# Altium integrated library AD Operational Amplifier.IntLib: 1114 symbols (part 12 of 13)
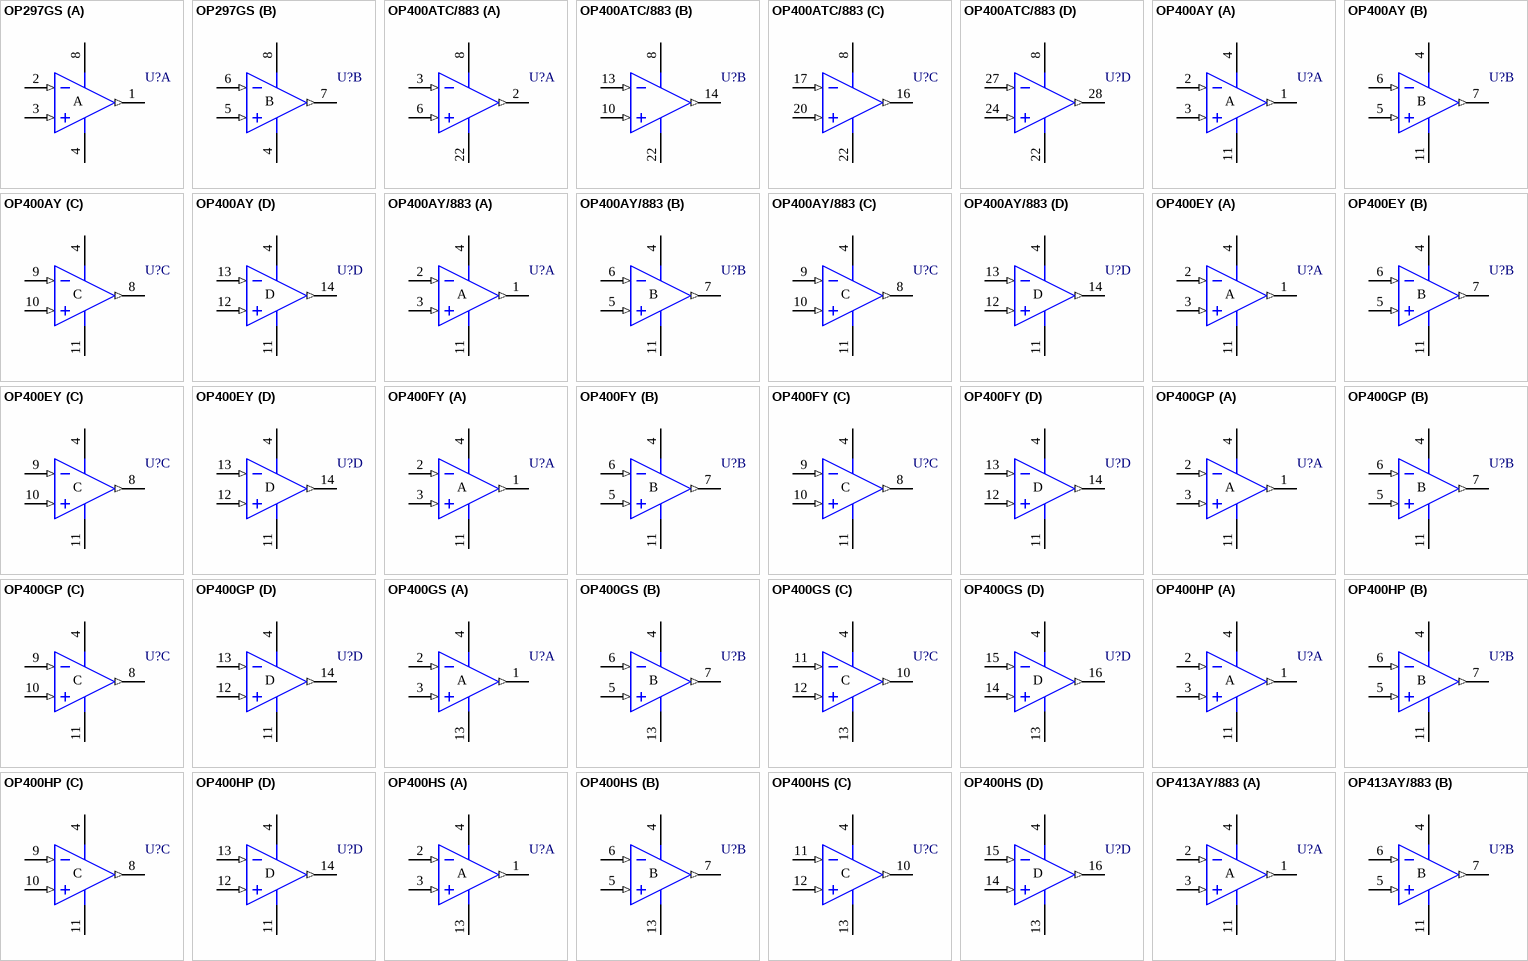
[diagram p57: symbols OP297GS to OP413AY/883]

## OP400GS
designator U?
Quad Low-Offset, Low-Power Operational Amplifier; Revision 1: 17-Jul-2002: Re-released for DXP Platform.; Revision 2: 21-May-2003: Pin 10 electrical type changed to 'Output'.; Package Information: Latest Revision: revA 1996; Note: Pins 8 and 9 are not connected and not drawn.; Code - JEDEC: MS-013-AA; Code - IPC: SO16W; Published: 8-Jun-2000; Datasheet: Designer's Reference Manual CD (1992); Package Reference: SOL-16; Publisher: Altium Limited
footprint SOL-16 (Small Outline; 16 Leads; Body Width 7.5 mm; Pitch 1.27 mm)
simulation model OP400G (SUBCKT)
pins on every part: 4 V+ (power), 13 V- (power)
part A pins: 1 OUT (out), 2 IN- (in), 3 IN+ (in)
part B pins: 5 IN+ (in), 6 IN- (in), 7 OUT (out)
part C pins: 10 OUT (out), 11 IN- (in), 12 IN+ (in)
part D pins: 14 IN+ (in), 15 IN- (in), 16 OUT (out)
part A text: A
part B text: B
part C text: C
part D text: D

## OP400HP
designator U?
Quad Low-Offset, Low-Power Operational Amplifier; Package Information: Latest Revision: 1999; Published: 8-Jun-2000; Revision: 17-Jul-2002: Re-released for DXP Platform.; Datasheet: Designer's Reference Manual CD (1992); Package Reference: N-14; Publisher: Altium Limited
footprint N-14 (DIP; 14 Leads; Row Spacing 7.62 mm; Pitch 2.54 mm)
simulation model OP400H (SUBCKT)
pins on every part: 4 V+ (power), 11 V- (power)
part A pins: 1 OUT (out), 2 IN- (in), 3 IN+ (in)
part B pins: 5 IN+ (in), 6 IN- (in), 7 OUT (out)
part C pins: 8 OUT (out), 9 IN- (in), 10 IN+ (in)
part D pins: 12 IN+ (in), 13 IN- (in), 14 OUT (out)
part A text: A
part B text: B
part C text: C
part D text: D

## OP400HS
designator U?
Quad Low-Offset, Low-Power Operational Amplifier; Revision 1: 17-Jul-2002: Re-released for DXP Platform.; Revision 2: 21-May-2003: Pin 10 electrical type changed to 'Output'.; Package Information: Latest Revision: revA 1996; Note: Pins 8 and 9 are not connected and not drawn.; Code - JEDEC: MS-013-AA; Code - IPC: SO16W; Published: 8-Jun-2000; Datasheet: Designer's Reference Manual CD (1992); Package Reference: SOL-16; Publisher: Altium Limited
footprint SOL-16 (Small Outline; 16 Leads; Body Width 7.5 mm; Pitch 1.27 mm)
simulation model OP400H (SUBCKT)
pins on every part: 4 V+ (power), 13 V- (power)
part A pins: 1 OUT (out), 2 IN- (in), 3 IN+ (in)
part B pins: 5 IN+ (in), 6 IN- (in), 7 OUT (out)
part C pins: 10 OUT (out), 11 IN- (in), 12 IN+ (in)
part D pins: 14 IN+ (in), 15 IN- (in), 16 OUT (out)
part A text: A
part B text: B
part C text: C
part D text: D

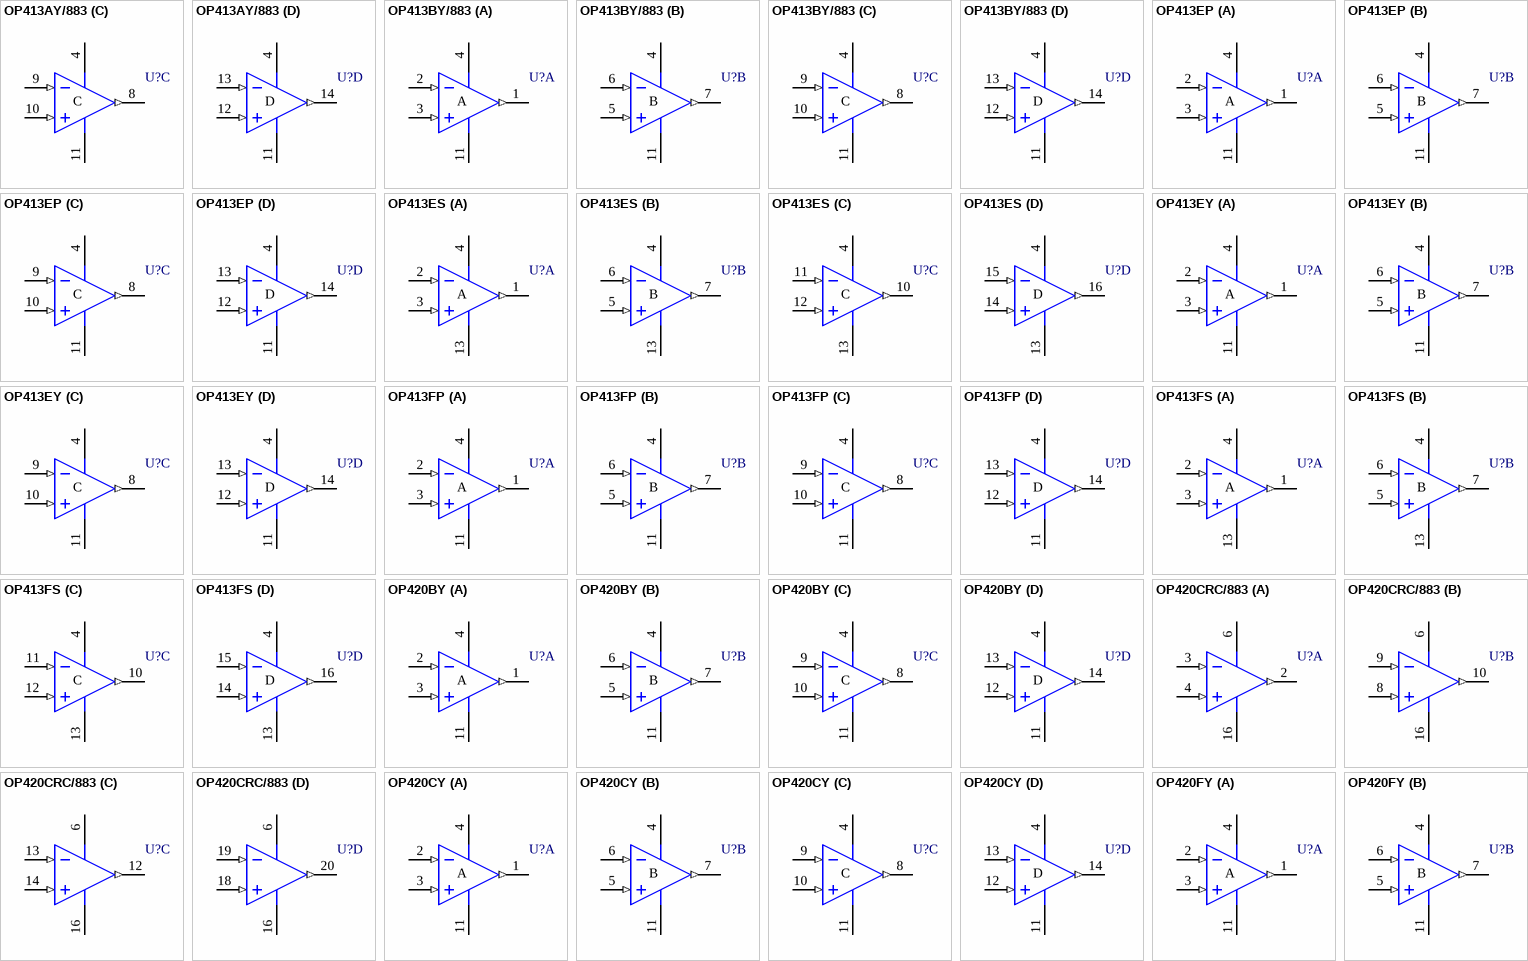
[diagram p36: symbols OP413AY/883 to OP420FY]

## OP413AY/883
designator U?
Low-Noise, Low Drift Single-Supply Operational Amplifier; Package Information: Latest Revision: revB; Published: 8-Jun-2000; Revision: 17-Jul-2002: Re-released for DXP Platform.; Datasheet: Latest Revision: REV. A 1994; Package Reference: Q-14; Publisher: Altium Limited
footprint Q-14 (DIP; 14 Leads; Row Spacing 7.62 mm; Pitch 2.54 mm)
simulation model OP413 (SUBCKT)
pins on every part: 4 V+ (power), 11 V- (power)
part A pins: 1 OUT (out), 2 IN- (in), 3 IN+ (in)
part B pins: 5 IN+ (in), 6 IN- (in), 7 OUT (out)
part C pins: 8 OUT (out), 9 IN- (in), 10 IN+ (in)
part D pins: 12 IN+ (in), 13 IN- (in), 14 OUT (out)
part A text: A
part B text: B
part C text: C
part D text: D

## OP413BY/883
designator U?
Low-Noise, Low Drift Single-Supply Operational Amplifier; Package Information: Latest Revision: revB; Published: 8-Jun-2000; Revision: 17-Jul-2002: Re-released for DXP Platform.; Datasheet: Latest Revision: REV. A 1994; Package Reference: Q-14; Publisher: Altium Limited
footprint Q-14 (DIP; 14 Leads; Row Spacing 7.62 mm; Pitch 2.54 mm)
simulation model OP413 (SUBCKT)
pins on every part: 4 V+ (power), 11 V- (power)
part A pins: 1 OUT (out), 2 IN- (in), 3 IN+ (in)
part B pins: 5 IN+ (in), 6 IN- (in), 7 OUT (out)
part C pins: 8 OUT (out), 9 IN- (in), 10 IN+ (in)
part D pins: 12 IN+ (in), 13 IN- (in), 14 OUT (out)
part A text: A
part B text: B
part C text: C
part D text: D

## OP413EP
designator U?
Low-Noise, Low Drift Single-Supply Operational Amplifier; Package Information: Latest Revision: 1999; Published: 8-Jun-2000; Revision: 17-Jul-2002: Re-released for DXP Platform.; Datasheet: Latest Revision: REV. C 1998; Package Reference: N-14; Publisher: Altium Limited
footprint N-14 (DIP; 14 Leads; Row Spacing 7.62 mm; Pitch 2.54 mm)
pins on every part: 4 V+ (power), 11 V- (power)
part A pins: 1 OUT (out), 2 IN- (in), 3 IN+ (in)
part B pins: 5 IN+ (in), 6 IN- (in), 7 OUT (out)
part C pins: 8 OUT (out), 9 IN- (in), 10 IN+ (in)
part D pins: 12 IN+ (in), 13 IN- (in), 14 OUT (out)
part A text: A
part B text: B
part C text: C
part D text: D

## OP413ES
designator U?
Low-Noise, Low Drift Single-Supply Operational Amplifier; Revision 1: 17-Jul-2002: Re-released for DXP Platform.; Revision 2: 21-May-2003: Pin 10 electrical type changed to 'Output'.; Package Information: Latest Revision: revA 1996; Note: Pins 8 and 9 are not connected and not drawn.; Code - JEDEC: MS-013-AA; Code - IPC: SO16W; Published: 8-Jun-2000; Datasheet: Latest Revision: REV. C 1998; Package Reference: R-16; Publisher: Altium Limited
footprint R-16 (Small Outline; 16 Leads; Body Width 7.5 mm; Pitch 1.27 mm)
pins on every part: 4 V+ (power), 13 V- (power)
part A pins: 1 OUT (out), 2 IN- (in), 3 IN+ (in)
part B pins: 5 IN+ (in), 6 IN- (in), 7 OUT (out)
part C pins: 10 OUT (out), 11 IN- (in), 12 IN+ (in)
part D pins: 14 IN+ (in), 15 IN- (in), 16 OUT (out)
part A text: A
part B text: B
part C text: C
part D text: D

## OP413EY
designator U?
Low-Noise, Low Drift Single-Supply Operational Amplifier; Package Information: Latest Revision: revB; Published: 8-Jun-2000; Revision: 17-Jul-2002: Re-released for DXP Platform.; Datasheet: Latest Revision: REV. A 1994; Package Reference: Q-14; Publisher: Altium Limited
footprint Q-14 (DIP; 14 Leads; Row Spacing 7.62 mm; Pitch 2.54 mm)
pins on every part: 4 V+ (power), 11 V- (power)
part A pins: 1 OUT (out), 2 IN- (in), 3 IN+ (in)
part B pins: 5 IN+ (in), 6 IN- (in), 7 OUT (out)
part C pins: 8 OUT (out), 9 IN- (in), 10 IN+ (in)
part D pins: 12 IN+ (in), 13 IN- (in), 14 OUT (out)
part A text: A
part B text: B
part C text: C
part D text: D

## OP413FP
designator U?
Low-Noise, Low Drift Single-Supply Operational Amplifier; Package Information: Latest Revision: 1999; Published: 8-Jun-2000; Revision: 17-Jul-2002: Re-released for DXP Platform.; Datasheet: Latest Revision: REV. C 1998; Package Reference: N-14; Publisher: Altium Limited
footprint N-14 (DIP; 14 Leads; Row Spacing 7.62 mm; Pitch 2.54 mm)
pins on every part: 4 V+ (power), 11 V- (power)
part A pins: 1 OUT (out), 2 IN- (in), 3 IN+ (in)
part B pins: 5 IN+ (in), 6 IN- (in), 7 OUT (out)
part C pins: 8 OUT (out), 9 IN- (in), 10 IN+ (in)
part D pins: 12 IN+ (in), 13 IN- (in), 14 OUT (out)
part A text: A
part B text: B
part C text: C
part D text: D

## OP413FS
designator U?
Low-Noise, Low Drift Single-Supply Operational Amplifier; Revision 1: 17-Jul-2002: Re-released for DXP Platform.; Revision 2: 21-May-2003: Pin 10 electrical type changed to 'Output'.; Package Information: Latest Revision: revA 1996; Note: Pins 8 and 9 are not connected and not drawn.; Code - JEDEC: MS-013-AA; Code - IPC: SO16W; Published: 8-Jun-2000; Datasheet: Latest Revision: REV. C 1998; Package Reference: R-16; Publisher: Altium Limited
footprint R-16 (Small Outline; 16 Leads; Body Width 7.5 mm; Pitch 1.27 mm)
pins on every part: 4 V+ (power), 13 V- (power)
part A pins: 1 OUT (out), 2 IN- (in), 3 IN+ (in)
part B pins: 5 IN+ (in), 6 IN- (in), 7 OUT (out)
part C pins: 10 OUT (out), 11 IN- (in), 12 IN+ (in)
part D pins: 14 IN+ (in), 15 IN- (in), 16 OUT (out)
part A text: A
part B text: B
part C text: C
part D text: D

## OP420BY
designator U?
Quad Micropower Operational Amplifier; Package Information: Latest Revision: revB; Published: 8-Jun-2000; Revision: 17-Jul-2002: Re-released for DXP Platform.; Datasheet: Latest Revision: 1992; Package Reference: Q-14; Publisher: Altium Limited
footprint Q-14 (DIP; 14 Leads; Row Spacing 7.62 mm; Pitch 2.54 mm)
simulation model OP420B (SUBCKT)
pins on every part: 4 V+ (power), 11 V- (power)
part A pins: 1 OUT (out), 2 IN- (in), 3 IN+ (in)
part B pins: 5 IN+ (in), 6 IN- (in), 7 OUT (out)
part C pins: 8 OUT (out), 9 IN- (in), 10 IN+ (in)
part D pins: 12 IN+ (in), 13 IN- (in), 14 OUT (out)
part A text: A
part B text: B
part C text: C
part D text: D

## OP420CRC/883
designator U?
Quad Micropower Operational Amplifier; Note: Pins 1, 5, 7, 11, 15 and 17 are not connected (NC) and are not drawn.; Published: 8-Jun-2000; Revision: 17-Jul-2002: Re-released for DXP Platform.; Datasheet: Latest Revision: 1992; Package Reference: E-20A; Publisher: Altium Limited
footprint E-20A (Leadless Chip Carrier; 20 Terminals; Body 8.9 x 8.9 mm)
simulation model OP420C (SUBCKT)
pins on every part: 6 V+ (power), 16 V- (power)
part A pins: 2 OUT (out), 3 IN- (in), 4 IN+ (in)
part B pins: 8 IN+ (in), 9 IN- (in), 10 OUT (out)
part C pins: 12 OUT (out), 13 IN- (in), 14 IN+ (in)
part D pins: 18 IN+ (in), 19 IN- (in), 20 OUT (out)

## OP420CY
designator U?
Quad Micropower Operational Amplifier; Package Information: Latest Revision: revB; Published: 8-Jun-2000; Revision: 17-Jul-2002: Re-released for DXP Platform.; Datasheet: Latest Revision: 1992; Package Reference: Q-14; Publisher: Altium Limited
footprint Q-14 (DIP; 14 Leads; Row Spacing 7.62 mm; Pitch 2.54 mm)
simulation model OP420C (SUBCKT)
pins on every part: 4 V+ (power), 11 V- (power)
part A pins: 1 OUT (out), 2 IN- (in), 3 IN+ (in)
part B pins: 5 IN+ (in), 6 IN- (in), 7 OUT (out)
part C pins: 8 OUT (out), 9 IN- (in), 10 IN+ (in)
part D pins: 12 IN+ (in), 13 IN- (in), 14 OUT (out)
part A text: A
part B text: B
part C text: C
part D text: D

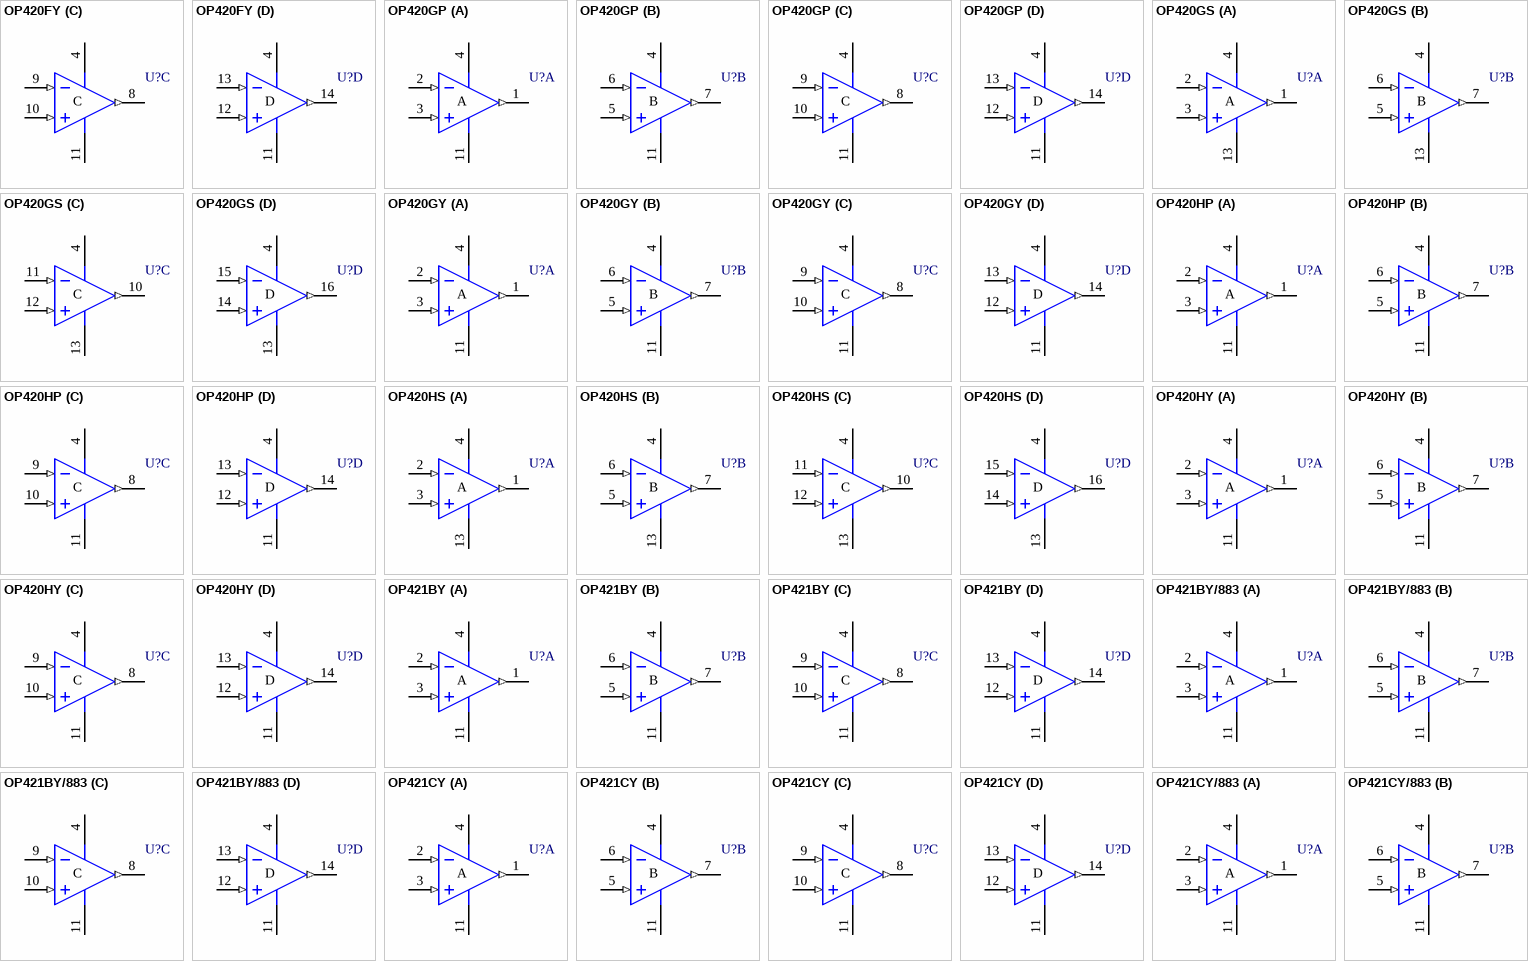
[diagram p37: symbols OP420FY to OP421CY/883]

## OP420FY
designator U?
Quad Micropower Operational Amplifier; Package Information: Latest Revision: revB; Published: 8-Jun-2000; Revision: 17-Jul-2002: Re-released for DXP Platform.; Datasheet: Latest Revision: 1992; Package Reference: Q-14; Publisher: Altium Limited
footprint Q-14 (DIP; 14 Leads; Row Spacing 7.62 mm; Pitch 2.54 mm)
simulation model OP420F (SUBCKT)
pins on every part: 4 V+ (power), 11 V- (power)
part A pins: 1 OUT (out), 2 IN- (in), 3 IN+ (in)
part B pins: 5 IN+ (in), 6 IN- (in), 7 OUT (out)
part C pins: 8 OUT (out), 9 IN- (in), 10 IN+ (in)
part D pins: 12 IN+ (in), 13 IN- (in), 14 OUT (out)
part A text: A
part B text: B
part C text: C
part D text: D

## OP420GP
designator U?
Quad Micropower Operational Amplifier; Package Information: Latest Revision: 1999; Published: 8-Jun-2000; Revision: 17-Jul-2002: Re-released for DXP Platform.; Datasheet: Latest Revision: 1992; Package Reference: N-14; Publisher: Altium Limited
footprint N-14 (DIP; 14 Leads; Row Spacing 7.62 mm; Pitch 2.54 mm)
simulation model OP420G (SUBCKT)
pins on every part: 4 V+ (power), 11 V- (power)
part A pins: 1 OUT (out), 2 IN- (in), 3 IN+ (in)
part B pins: 5 IN+ (in), 6 IN- (in), 7 OUT (out)
part C pins: 8 OUT (out), 9 IN- (in), 10 IN+ (in)
part D pins: 12 IN+ (in), 13 IN- (in), 14 OUT (out)
part A text: A
part B text: B
part C text: C
part D text: D

## OP420GS
designator U?
Quad Micropower Operational Amplifier; Revision 1: 17-Jul-2002: Re-released for DXP Platform.; Revision 2: 21-May-2003: Pin 10 electrical type changed to 'Output'.; Package Information: Latest Revision: revA 1996; Note: Pins 8 and 9 are not connected and not drawn.; Code - JEDEC: MS-013-AA; Code - IPC: SO16W; Published: 8-Jun-2000; Datasheet: Latest Revision: 1992; Package Reference: SOL-16; Publisher: Altium Limited
footprint SOL-16 (Small Outline; 16 Leads; Body Width 7.5 mm; Pitch 1.27 mm)
simulation model OP420G (SUBCKT)
pins on every part: 4 V+ (power), 13 V- (power)
part A pins: 1 OUT (out), 2 IN- (in), 3 IN+ (in)
part B pins: 5 IN+ (in), 6 IN- (in), 7 OUT (out)
part C pins: 10 OUT (out), 11 IN- (in), 12 IN+ (in)
part D pins: 14 IN+ (in), 15 IN- (in), 16 OUT (out)
part A text: A
part B text: B
part C text: C
part D text: D

## OP420GY
designator U?
Quad Micropower Operational Amplifier; Package Information: Latest Revision: revB; Published: 8-Jun-2000; Revision: 17-Jul-2002: Re-released for DXP Platform.; Datasheet: Latest Revision: 1992; Package Reference: Q-14; Publisher: Altium Limited
footprint Q-14 (DIP; 14 Leads; Row Spacing 7.62 mm; Pitch 2.54 mm)
simulation model OP420G (SUBCKT)
pins on every part: 4 V+ (power), 11 V- (power)
part A pins: 1 OUT (out), 2 IN- (in), 3 IN+ (in)
part B pins: 5 IN+ (in), 6 IN- (in), 7 OUT (out)
part C pins: 8 OUT (out), 9 IN- (in), 10 IN+ (in)
part D pins: 12 IN+ (in), 13 IN- (in), 14 OUT (out)
part A text: A
part B text: B
part C text: C
part D text: D

## OP420HP
designator U?
Quad Micropower Operational Amplifier; Package Information: Latest Revision: 1999; Published: 8-Jun-2000; Revision: 17-Jul-2002: Re-released for DXP Platform.; Datasheet: Latest Revision: 1992; Package Reference: N-14; Publisher: Altium Limited
footprint N-14 (DIP; 14 Leads; Row Spacing 7.62 mm; Pitch 2.54 mm)
simulation model OP420H (SUBCKT)
pins on every part: 4 V+ (power), 11 V- (power)
part A pins: 1 OUT (out), 2 IN- (in), 3 IN+ (in)
part B pins: 5 IN+ (in), 6 IN- (in), 7 OUT (out)
part C pins: 8 OUT (out), 9 IN- (in), 10 IN+ (in)
part D pins: 12 IN+ (in), 13 IN- (in), 14 OUT (out)
part A text: A
part B text: B
part C text: C
part D text: D

## OP420HS
designator U?
Quad Micropower Operational Amplifier; Revision 1: 17-Jul-2002: Re-released for DXP Platform.; Revision 2: 21-May-2003: Pin 10 electrical type changed to 'Output'.; Package Information: Latest Revision: revA 1996; Note: Pins 8 and 9 are not connected and not drawn.; Code - JEDEC: MS-013-AA; Code - IPC: SO16W; Published: 8-Jun-2000; Datasheet: Latest Revision: 1992; Package Reference: SOL-16; Publisher: Altium Limited
footprint SOL-16 (Small Outline; 16 Leads; Body Width 7.5 mm; Pitch 1.27 mm)
simulation model OP420H (SUBCKT)
pins on every part: 4 V+ (power), 13 V- (power)
part A pins: 1 OUT (out), 2 IN- (in), 3 IN+ (in)
part B pins: 5 IN+ (in), 6 IN- (in), 7 OUT (out)
part C pins: 10 OUT (out), 11 IN- (in), 12 IN+ (in)
part D pins: 14 IN+ (in), 15 IN- (in), 16 OUT (out)
part A text: A
part B text: B
part C text: C
part D text: D

## OP420HY
designator U?
Quad Micropower Operational Amplifier; Package Information: Latest Revision: revB; Published: 8-Jun-2000; Revision: 17-Jul-2002: Re-released for DXP Platform.; Datasheet: Latest Revision: 1992; Package Reference: Q-14; Publisher: Altium Limited
footprint Q-14 (DIP; 14 Leads; Row Spacing 7.62 mm; Pitch 2.54 mm)
simulation model OP420H (SUBCKT)
pins on every part: 4 V+ (power), 11 V- (power)
part A pins: 1 OUT (out), 2 IN- (in), 3 IN+ (in)
part B pins: 5 IN+ (in), 6 IN- (in), 7 OUT (out)
part C pins: 8 OUT (out), 9 IN- (in), 10 IN+ (in)
part D pins: 12 IN+ (in), 13 IN- (in), 14 OUT (out)
part A text: A
part B text: B
part C text: C
part D text: D

## OP421BY
designator U?
Quad Low-Power Operational Amplifier, Single or Dual Supply; Package Information: Latest Revision: revB; Published: 8-Jun-2000; Revision: 17-Jul-2002: Re-released for DXP Platform.; Datasheet: Latest Revision: 1992; Package Reference: Q-14; Publisher: Altium Limited
footprint Q-14 (DIP; 14 Leads; Row Spacing 7.62 mm; Pitch 2.54 mm)
simulation model OP421B (SUBCKT)
pins on every part: 4 V+ (power), 11 V- (power)
part A pins: 1 OUT (out), 2 IN- (in), 3 IN+ (in)
part B pins: 5 IN+ (in), 6 IN- (in), 7 OUT (out)
part C pins: 8 OUT (out), 9 IN- (in), 10 IN+ (in)
part D pins: 12 IN+ (in), 13 IN- (in), 14 OUT (out)
part A text: A
part B text: B
part C text: C
part D text: D

## OP421BY/883
designator U?
Quad Low-Power Operational Amplifier, Single or Dual Supply; Package Information: Latest Revision: revB; Published: 8-Jun-2000; Revision: 17-Jul-2002: Re-released for DXP Platform.; Datasheet: Latest Revision: 1992; Package Reference: Q-14; Publisher: Altium Limited
footprint Q-14 (DIP; 14 Leads; Row Spacing 7.62 mm; Pitch 2.54 mm)
simulation model OP421B (SUBCKT)
pins on every part: 4 V+ (power), 11 V- (power)
part A pins: 1 OUT (out), 2 IN- (in), 3 IN+ (in)
part B pins: 5 IN+ (in), 6 IN- (in), 7 OUT (out)
part C pins: 8 OUT (out), 9 IN- (in), 10 IN+ (in)
part D pins: 12 IN+ (in), 13 IN- (in), 14 OUT (out)
part A text: A
part B text: B
part C text: C
part D text: D

## OP421CY
designator U?
Quad Low-Power Operational Amplifier, Single or Dual Supply; Package Information: Latest Revision: revB; Published: 8-Jun-2000; Revision: 17-Jul-2002: Re-released for DXP Platform.; Datasheet: Latest Revision: 1992; Package Reference: Q-14; Publisher: Altium Limited
footprint Q-14 (DIP; 14 Leads; Row Spacing 7.62 mm; Pitch 2.54 mm)
simulation model OP421C (SUBCKT)
pins on every part: 4 V+ (power), 11 V- (power)
part A pins: 1 OUT (out), 2 IN- (in), 3 IN+ (in)
part B pins: 5 IN+ (in), 6 IN- (in), 7 OUT (out)
part C pins: 8 OUT (out), 9 IN- (in), 10 IN+ (in)
part D pins: 12 IN+ (in), 13 IN- (in), 14 OUT (out)
part A text: A
part B text: B
part C text: C
part D text: D

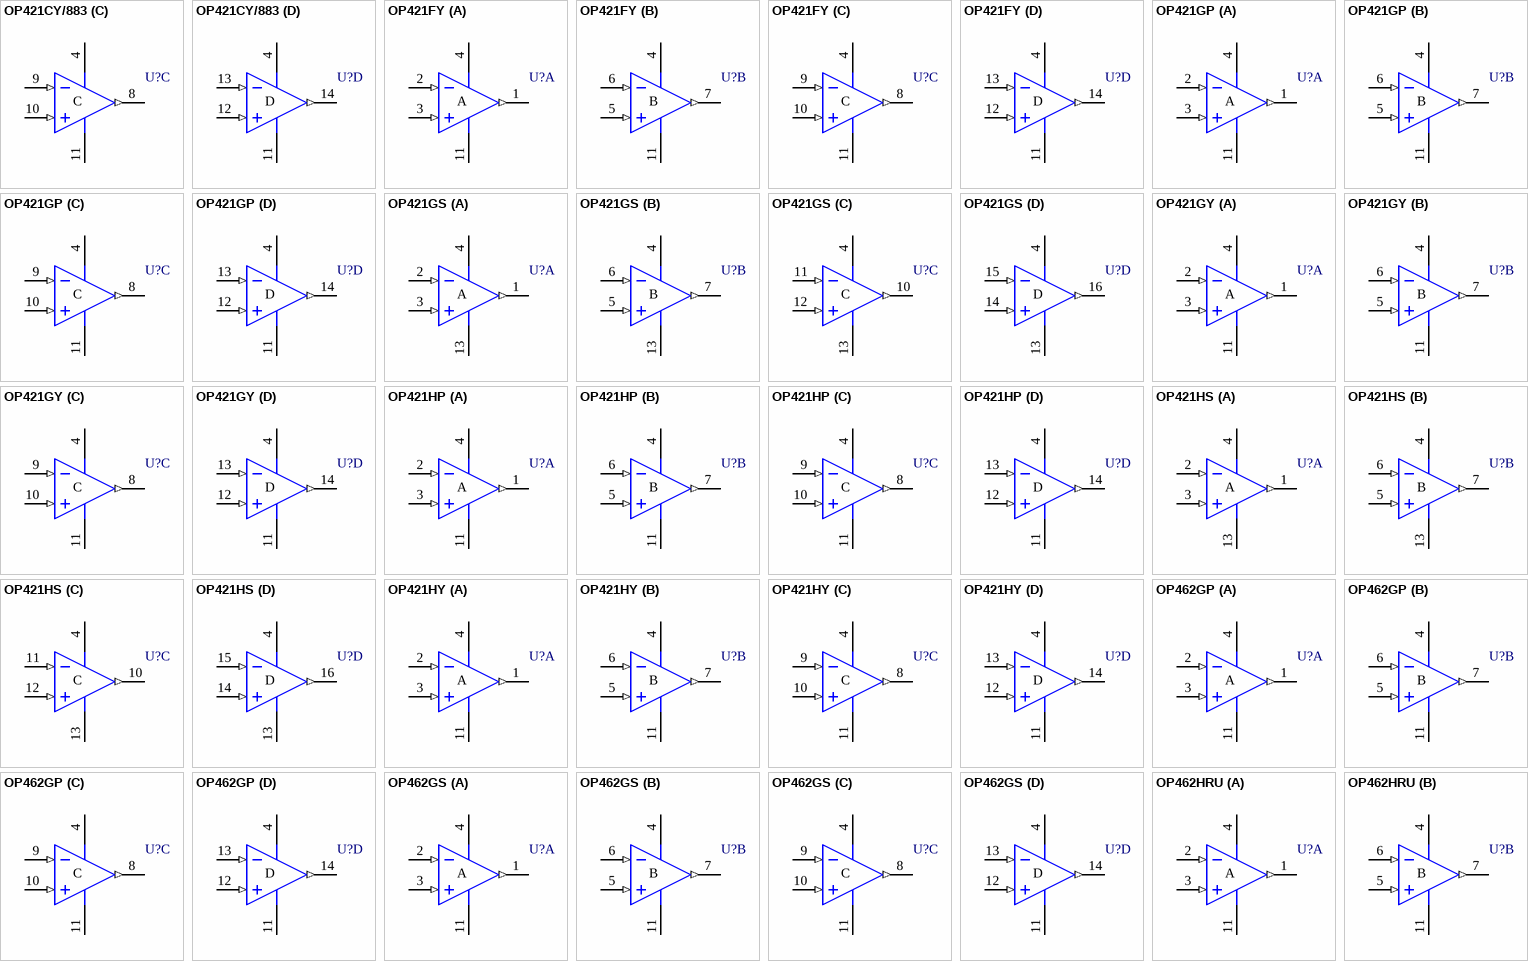
[diagram p38: symbols OP421CY/883 to OP462HRU]

## OP421CY/883
designator U?
Quad Low-Power Operational Amplifier, Single or Dual Supply; Package Information: Latest Revision: revB; Published: 8-Jun-2000; Revision: 17-Jul-2002: Re-released for DXP Platform.; Datasheet: Latest Revision: 1992; Package Reference: Q-14; Publisher: Altium Limited
footprint Q-14 (DIP; 14 Leads; Row Spacing 7.62 mm; Pitch 2.54 mm)
simulation model OP421C (SUBCKT)
pins on every part: 4 V+ (power), 11 V- (power)
part A pins: 1 OUT (out), 2 IN- (in), 3 IN+ (in)
part B pins: 5 IN+ (in), 6 IN- (in), 7 OUT (out)
part C pins: 8 OUT (out), 9 IN- (in), 10 IN+ (in)
part D pins: 12 IN+ (in), 13 IN- (in), 14 OUT (out)
part A text: A
part B text: B
part C text: C
part D text: D

## OP421FY
designator U?
Quad Low-Power Operational Amplifier, Single or Dual Supply; Package Information: Latest Revision: revB; Published: 8-Jun-2000; Revision: 17-Jul-2002: Re-released for DXP Platform.; Datasheet: Latest Revision: 1992; Package Reference: Q-14; Publisher: Altium Limited
footprint Q-14 (DIP; 14 Leads; Row Spacing 7.62 mm; Pitch 2.54 mm)
simulation model OP421F (SUBCKT)
pins on every part: 4 V+ (power), 11 V- (power)
part A pins: 1 OUT (out), 2 IN- (in), 3 IN+ (in)
part B pins: 5 IN+ (in), 6 IN- (in), 7 OUT (out)
part C pins: 8 OUT (out), 9 IN- (in), 10 IN+ (in)
part D pins: 12 IN+ (in), 13 IN- (in), 14 OUT (out)
part A text: A
part B text: B
part C text: C
part D text: D

## OP421GP
designator U?
Quad Low-Power Operational Amplifier, Single or Dual Supply; Package Information: Latest Revision: 1999; Published: 8-Jun-2000; Revision: 17-Jul-2002: Re-released for DXP Platform.; Datasheet: Latest Revision: 1992; Package Reference: N-14; Publisher: Altium Limited
footprint N-14 (DIP; 14 Leads; Row Spacing 7.62 mm; Pitch 2.54 mm)
simulation model OP421G (SUBCKT)
pins on every part: 4 V+ (power), 11 V- (power)
part A pins: 1 OUT (out), 2 IN- (in), 3 IN+ (in)
part B pins: 5 IN+ (in), 6 IN- (in), 7 OUT (out)
part C pins: 8 OUT (out), 9 IN- (in), 10 IN+ (in)
part D pins: 12 IN+ (in), 13 IN- (in), 14 OUT (out)
part A text: A
part B text: B
part C text: C
part D text: D

## OP421GS
designator U?
Quad Low-Power Operational Amplifier, Single or Dual Supply; Revision 1: 17-Jul-2002: Re-released for DXP Platform.; Revision 2: 21-May-2003: Pin 10 electrical type changed to 'Output'.; Package Information: Latest Revision: revA 1996; Note: Pins 8 and 9 are not connected and not drawn.; Code - JEDEC: MS-013-AA; Code - IPC: SO16W; Published: 8-Jun-2000; Datasheet: Latest Revision: 1992; Package Reference: SOL-16; Publisher: Altium Limited
footprint SOL-16 (Small Outline; 16 Leads; Body Width 7.5 mm; Pitch 1.27 mm)
simulation model OP421G (SUBCKT)
pins on every part: 4 V+ (power), 13 V- (power)
part A pins: 1 OUT (out), 2 IN- (in), 3 IN+ (in)
part B pins: 5 IN+ (in), 6 IN- (in), 7 OUT (out)
part C pins: 10 OUT (out), 11 IN- (in), 12 IN+ (in)
part D pins: 14 IN+ (in), 15 IN- (in), 16 OUT (out)
part A text: A
part B text: B
part C text: C
part D text: D

## OP421GY
designator U?
Quad Low-Power Operational Amplifier, Single or Dual Supply; Package Information: Latest Revision: revB; Published: 8-Jun-2000; Revision: 17-Jul-2002: Re-released for DXP Platform.; Datasheet: Latest Revision: 1992; Package Reference: Q-14; Publisher: Altium Limited
footprint Q-14 (DIP; 14 Leads; Row Spacing 7.62 mm; Pitch 2.54 mm)
simulation model OP421G (SUBCKT)
pins on every part: 4 V+ (power), 11 V- (power)
part A pins: 1 OUT (out), 2 IN- (in), 3 IN+ (in)
part B pins: 5 IN+ (in), 6 IN- (in), 7 OUT (out)
part C pins: 8 OUT (out), 9 IN- (in), 10 IN+ (in)
part D pins: 12 IN+ (in), 13 IN- (in), 14 OUT (out)
part A text: A
part B text: B
part C text: C
part D text: D

## OP421HP
designator U?
Quad Low-Power Operational Amplifier, Single or Dual Supply; Package Information: Latest Revision: 1999; Published: 8-Jun-2000; Revision: 17-Jul-2002: Re-released for DXP Platform.; Datasheet: Latest Revision: 1992; Package Reference: N-14; Publisher: Altium Limited
footprint N-14 (DIP; 14 Leads; Row Spacing 7.62 mm; Pitch 2.54 mm)
simulation model OP421H (SUBCKT)
pins on every part: 4 V+ (power), 11 V- (power)
part A pins: 1 OUT (out), 2 IN- (in), 3 IN+ (in)
part B pins: 5 IN+ (in), 6 IN- (in), 7 OUT (out)
part C pins: 8 OUT (out), 9 IN- (in), 10 IN+ (in)
part D pins: 12 IN+ (in), 13 IN- (in), 14 OUT (out)
part A text: A
part B text: B
part C text: C
part D text: D

## OP421HS
designator U?
Quad Low-Power Operational Amplifier, Single or Dual Supply; Revision 1: 17-Jul-2002: Re-released for DXP Platform.; Revision 2: 21-May-2003: Pin 10 electrical type changed to 'Output'.; Package Information: Latest Revision: revA 1996; Note: Pins 8 and 9 are not connected and not drawn.; Code - JEDEC: MS-013-AA; Code - IPC: SO16W; Published: 8-Jun-2000; Datasheet: Latest Revision: 1992; Package Reference: SOL-16; Publisher: Altium Limited
footprint SOL-16 (Small Outline; 16 Leads; Body Width 7.5 mm; Pitch 1.27 mm)
simulation model OP421H (SUBCKT)
pins on every part: 4 V+ (power), 13 V- (power)
part A pins: 1 OUT (out), 2 IN- (in), 3 IN+ (in)
part B pins: 5 IN+ (in), 6 IN- (in), 7 OUT (out)
part C pins: 10 OUT (out), 11 IN- (in), 12 IN+ (in)
part D pins: 14 IN+ (in), 15 IN- (in), 16 OUT (out)
part A text: A
part B text: B
part C text: C
part D text: D

## OP421HY
designator U?
Quad Low-Power Operational Amplifier, Single or Dual Supply; Package Information: Latest Revision: revB; Published: 8-Jun-2000; Revision: 17-Jul-2002: Re-released for DXP Platform.; Datasheet: Latest Revision: 1992; Package Reference: Q-14; Publisher: Altium Limited
footprint Q-14 (DIP; 14 Leads; Row Spacing 7.62 mm; Pitch 2.54 mm)
simulation model OP421H (SUBCKT)
pins on every part: 4 V+ (power), 11 V- (power)
part A pins: 1 OUT (out), 2 IN- (in), 3 IN+ (in)
part B pins: 5 IN+ (in), 6 IN- (in), 7 OUT (out)
part C pins: 8 OUT (out), 9 IN- (in), 10 IN+ (in)
part D pins: 12 IN+ (in), 13 IN- (in), 14 OUT (out)
part A text: A
part B text: B
part C text: C
part D text: D

## OP462GP
designator U?
15MHz Rail-to-Rail Operational Amplifier; Package Information: Latest Revision: 1999; Published: 8-Jun-2000; Revision: 17-Jul-2002: Re-released for DXP Platform.; Datasheet: Designer's Reference Manual CD (REV. B 1997); Package Reference: N-14; Publisher: Altium Limited
footprint N-14 (DIP; 14 Leads; Row Spacing 7.62 mm; Pitch 2.54 mm)
simulation model OP462 (SUBCKT)
pins on every part: 4 V+ (power), 11 V- (power)
part A pins: 1 OUT (out), 2 IN- (in), 3 IN+ (in)
part B pins: 5 IN+ (in), 6 IN- (in), 7 OUT (out)
part C pins: 8 OUT (out), 9 IN- (in), 10 IN+ (in)
part D pins: 12 IN+ (in), 13 IN- (in), 14 OUT (out)
part A text: A
part B text: B
part C text: C
part D text: D

## OP462GS
designator U?
15MHz Rail-to-Rail Operational Amplifier; Package Information: Latest Revision: revA; Code - JEDEC: MS-012-AB; Code - IPC: SO14; Published: 8-Jun-2000; Revision: 17-Jul-2002: Re-released for DXP Platform.; Datasheet: Designer's Reference Manual CD (REV. B 1997); Package Reference: SO-14; Publisher: Altium Limited
footprint SO-14 (Small Outline; 14 Leads; Body Width 3.9 mm; Pitch 1.27 mm)
simulation model OP462 (SUBCKT)
pins on every part: 4 V+ (power), 11 V- (power)
part A pins: 1 OUT (out), 2 IN- (in), 3 IN+ (in)
part B pins: 5 IN+ (in), 6 IN- (in), 7 OUT (out)
part C pins: 8 OUT (out), 9 IN- (in), 10 IN+ (in)
part D pins: 12 IN+ (in), 13 IN- (in), 14 OUT (out)
part A text: A
part B text: B
part C text: C
part D text: D

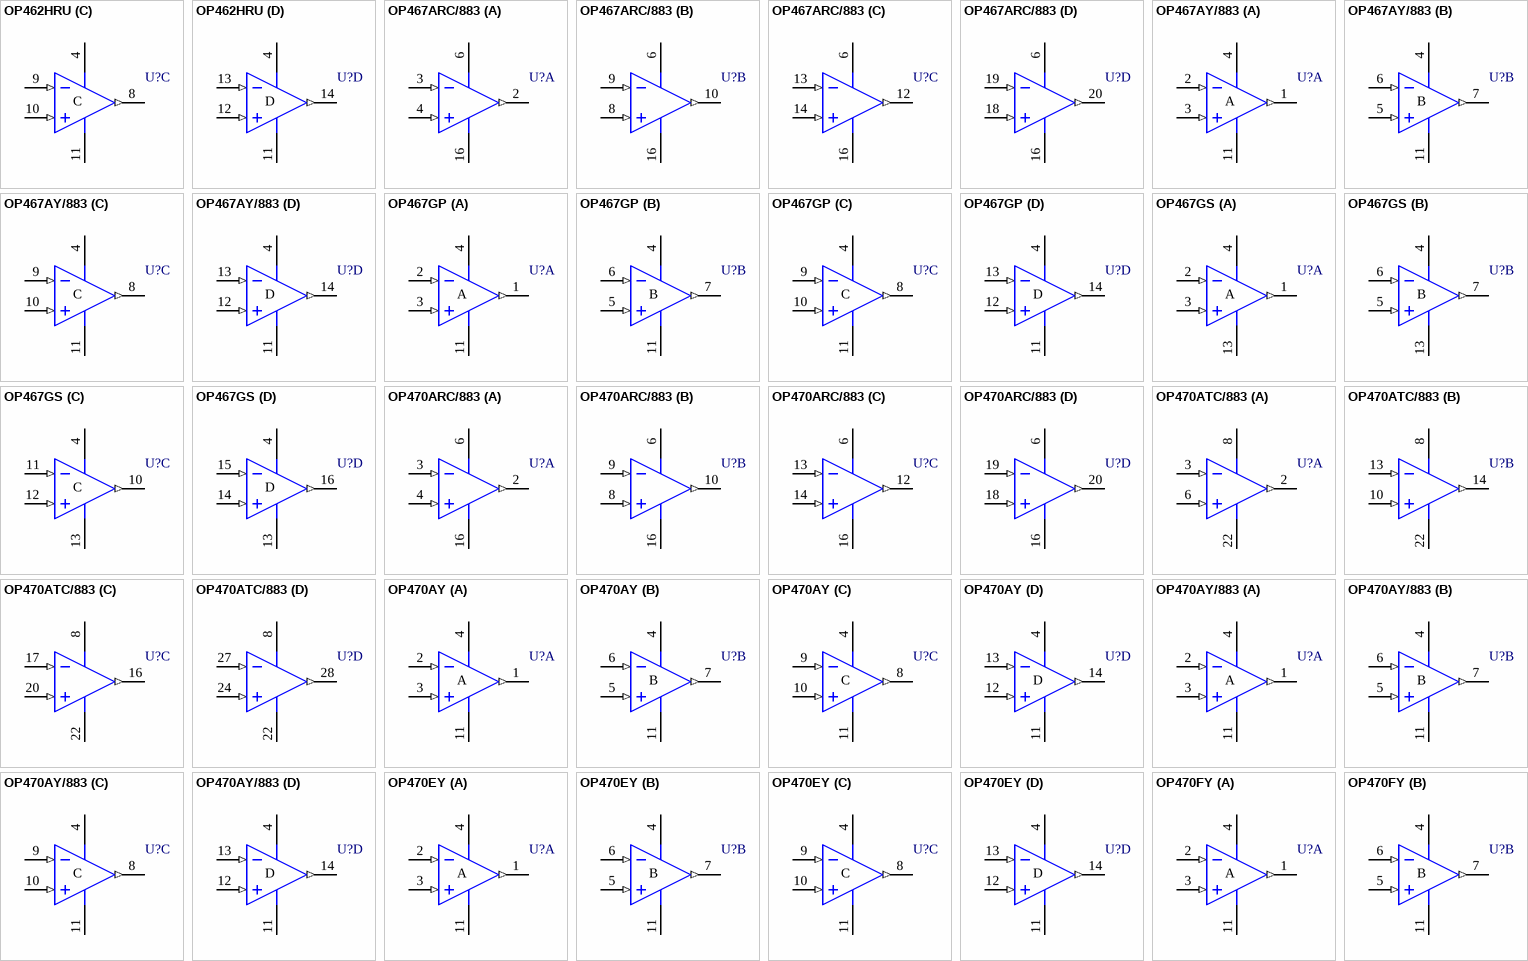
[diagram p39: symbols OP462HRU to OP470FY]

## OP462HRU
designator U?
15MHz Rail-to-Rail Operational Amplifier; Published: 8-Jun-2000; Revision: 17-Jul-2002: Re-released for DXP Platform.; Datasheet: Designer's Reference Manual CD (REV. B 1997); Package Reference: RU-14; Publisher: Altium Limited
footprint RU-14 (Shrink Small Outline; 14 Leads; Body Width 4.4 mm; Pitch 0.65 mm)
simulation model OP462 (SUBCKT)
pins on every part: 4 V+ (power), 11 V- (power)
part A pins: 1 OUT (out), 2 IN- (in), 3 IN+ (in)
part B pins: 5 IN+ (in), 6 IN- (in), 7 OUT (out)
part C pins: 8 OUT (out), 9 IN- (in), 10 IN+ (in)
part D pins: 12 IN+ (in), 13 IN- (in), 14 OUT (out)
part A text: A
part B text: B
part C text: C
part D text: D

## OP467ARC/883
designator U?
Quad Precision, High-Speed Operational Amplifier; Note: Pins 1, 5, 7, 11, 15 and 17 are not connected (NC) and are not drawn.; Published: 8-Jun-2000; Revision: 17-Jul-2002: Re-released for DXP Platform.; Datasheet: Designer's Reference Manual CD (REV. C 1998); Package Reference: E-20A; Publisher: Altium Limited
footprint E-20A (Leadless Chip Carrier; 20 Terminals; Body 8.9 x 8.9 mm)
simulation model OP467 (SUBCKT)
pins on every part: 6 V+ (power), 16 V- (power)
part A pins: 2 OUT (out), 3 IN- (in), 4 IN+ (in)
part B pins: 8 IN+ (in), 9 IN- (in), 10 OUT (out)
part C pins: 12 OUT (out), 13 IN- (in), 14 IN+ (in)
part D pins: 18 IN+ (in), 19 IN- (in), 20 OUT (out)

## OP467AY/883
designator U?
Quad Precision, High-Speed Operational Amplifier; Package Information: Latest Revision: revC, 1998; Published: 8-Jun-2000; Revision: 17-Jul-2002: Re-released for DXP Platform.; Datasheet: Designer's Reference Manual CD (REV. C 1998); Package Reference: Q-14_B; Publisher: Altium Limited
footprint Q-14_B (DIP; 14 Leads; Row Spacing 7.62 mm; Pitch 2.54 mm)
simulation model OP467 (SUBCKT)
pins on every part: 4 V+ (power), 11 V- (power)
part A pins: 1 OUT (out), 2 IN- (in), 3 IN+ (in)
part B pins: 5 IN+ (in), 6 IN- (in), 7 OUT (out)
part C pins: 8 OUT (out), 9 IN- (in), 10 IN+ (in)
part D pins: 12 IN+ (in), 13 IN- (in), 14 OUT (out)
part A text: A
part B text: B
part C text: C
part D text: D

## OP467GP
designator U?
Quad Precision, High-Speed Operational Amplifier; Package Information: Latest Revision: 1999; Published: 8-Jun-2000; Revision: 17-Jul-2002: Re-released for DXP Platform.; Datasheet: Designer's Reference Manual CD (REV. C 1998); Package Reference: N-14; Publisher: Altium Limited
footprint N-14 (DIP; 14 Leads; Row Spacing 7.62 mm; Pitch 2.54 mm)
simulation model OP467G (SUBCKT)
pins on every part: 4 V+ (power), 11 V- (power)
part A pins: 1 OUT (out), 2 IN- (in), 3 IN+ (in)
part B pins: 5 IN+ (in), 6 IN- (in), 7 OUT (out)
part C pins: 8 OUT (out), 9 IN- (in), 10 IN+ (in)
part D pins: 12 IN+ (in), 13 IN- (in), 14 OUT (out)
part A text: A
part B text: B
part C text: C
part D text: D

## OP467GS
designator U?
Quad Precision, High-Speed Operational Amplifier; Revision 1: 17-Jul-2002: Re-released for DXP Platform.; Revision 2: 21-May-2003: Pin 10 electrical type changed to 'Output'.; Package Information: Latest Revision: revA 1996; Note: Pins 8 and 9 are not connected and not drawn.; Code - JEDEC: MS-013-AA; Code - IPC: SO16W; Published: 8-Jun-2000; Datasheet: Designer's Reference Manual CD (REV. C 1998); Package Reference: R-16; Publisher: Altium Limited
footprint R-16 (Small Outline; 16 Leads; Body Width 7.5 mm; Pitch 1.27 mm)
simulation model OP467G (SUBCKT)
pins on every part: 4 V+ (power), 13 V- (power)
part A pins: 1 OUT (out), 2 IN- (in), 3 IN+ (in)
part B pins: 5 IN+ (in), 6 IN- (in), 7 OUT (out)
part C pins: 10 OUT (out), 11 IN- (in), 12 IN+ (in)
part D pins: 14 IN+ (in), 15 IN- (in), 16 OUT (out)
part A text: A
part B text: B
part C text: C
part D text: D

## OP470ARC/883
designator U?
Very Low-Noise Quad Operational Amplifier; Note: Pins 1, 5, 7, 11, 15 and 17 are not connected (NC) and are not drawn.; Published: 8-Jun-2000; Revision: 17-Jul-2002: Re-released for DXP Platform.; Datasheet: Designer's Reference Manual CD (1992); Package Reference: E-20A; Publisher: Altium Limited
footprint E-20A (Leadless Chip Carrier; 20 Terminals; Body 8.9 x 8.9 mm)
simulation model OP470 (SUBCKT)
pins on every part: 6 V+ (power), 16 V- (power)
part A pins: 2 OUT (out), 3 IN- (in), 4 IN+ (in)
part B pins: 8 IN+ (in), 9 IN- (in), 10 OUT (out)
part C pins: 12 OUT (out), 13 IN- (in), 14 IN+ (in)
part D pins: 18 IN+ (in), 19 IN- (in), 20 OUT (out)

## OP470ATC/883
designator U?
Very Low-Noise Quad Operational Amplifier; Note: Pins 1, 4, 5, 7, 9, 11, 12, 15, 18, 19, 21, 23, 25 and 26 are not connected (NC) and are not drawn.; Published: 8-Jun-2000; Revision: 17-Jul-2002: Re-released for DXP Platform.; Datasheet: Designer's Reference Manual CD (1992); Package Reference: E-28A; Publisher: Altium Limited
footprint E-28A (Leadless Chip Carrier; 28 Terminals; Body 11.4 x 11.4 mm)
simulation model OP470 (SUBCKT)
pins on every part: 8 V+ (power), 22 V- (power)
part A pins: 2 OUT (out), 3 IN- (in), 6 IN+ (in)
part B pins: 10 IN+ (in), 13 IN- (in), 14 OUT (out)
part C pins: 16 OUT (out), 17 IN- (in), 20 IN+ (in)
part D pins: 24 IN+ (in), 27 IN- (in), 28 OUT (out)

## OP470AY
designator U?
Very Low-Noise Quad Operational Amplifier; Package Information: Latest Revision: revB; Published: 8-Jun-2000; Revision: 17-Jul-2002: Re-released for DXP Platform.; Datasheet: Designer's Reference Manual CD (1992); Package Reference: Q-14; Publisher: Altium Limited
footprint Q-14 (DIP; 14 Leads; Row Spacing 7.62 mm; Pitch 2.54 mm)
simulation model OP470 (SUBCKT)
pins on every part: 4 V+ (power), 11 V- (power)
part A pins: 1 OUT (out), 2 IN- (in), 3 IN+ (in)
part B pins: 5 IN+ (in), 6 IN- (in), 7 OUT (out)
part C pins: 8 OUT (out), 9 IN- (in), 10 IN+ (in)
part D pins: 12 IN+ (in), 13 IN- (in), 14 OUT (out)
part A text: A
part B text: B
part C text: C
part D text: D

## OP470AY/883
designator U?
Very Low-Noise Quad Operational Amplifier; Package Information: Latest Revision: revB; Published: 8-Jun-2000; Revision: 17-Jul-2002: Re-released for DXP Platform.; Datasheet: Designer's Reference Manual CD (1992); Package Reference: Q-14; Publisher: Altium Limited
footprint Q-14 (DIP; 14 Leads; Row Spacing 7.62 mm; Pitch 2.54 mm)
simulation model OP470 (SUBCKT)
pins on every part: 4 V+ (power), 11 V- (power)
part A pins: 1 OUT (out), 2 IN- (in), 3 IN+ (in)
part B pins: 5 IN+ (in), 6 IN- (in), 7 OUT (out)
part C pins: 8 OUT (out), 9 IN- (in), 10 IN+ (in)
part D pins: 12 IN+ (in), 13 IN- (in), 14 OUT (out)
part A text: A
part B text: B
part C text: C
part D text: D

## OP470EY
designator U?
Very Low-Noise Quad Operational Amplifier; Package Information: Latest Revision: revB; Published: 8-Jun-2000; Revision: 17-Jul-2002: Re-released for DXP Platform.; Datasheet: Designer's Reference Manual CD (1992); Package Reference: Q-14; Publisher: Altium Limited
footprint Q-14 (DIP; 14 Leads; Row Spacing 7.62 mm; Pitch 2.54 mm)
simulation model OP470 (SUBCKT)
pins on every part: 4 V+ (power), 11 V- (power)
part A pins: 1 OUT (out), 2 IN- (in), 3 IN+ (in)
part B pins: 5 IN+ (in), 6 IN- (in), 7 OUT (out)
part C pins: 8 OUT (out), 9 IN- (in), 10 IN+ (in)
part D pins: 12 IN+ (in), 13 IN- (in), 14 OUT (out)
part A text: A
part B text: B
part C text: C
part D text: D

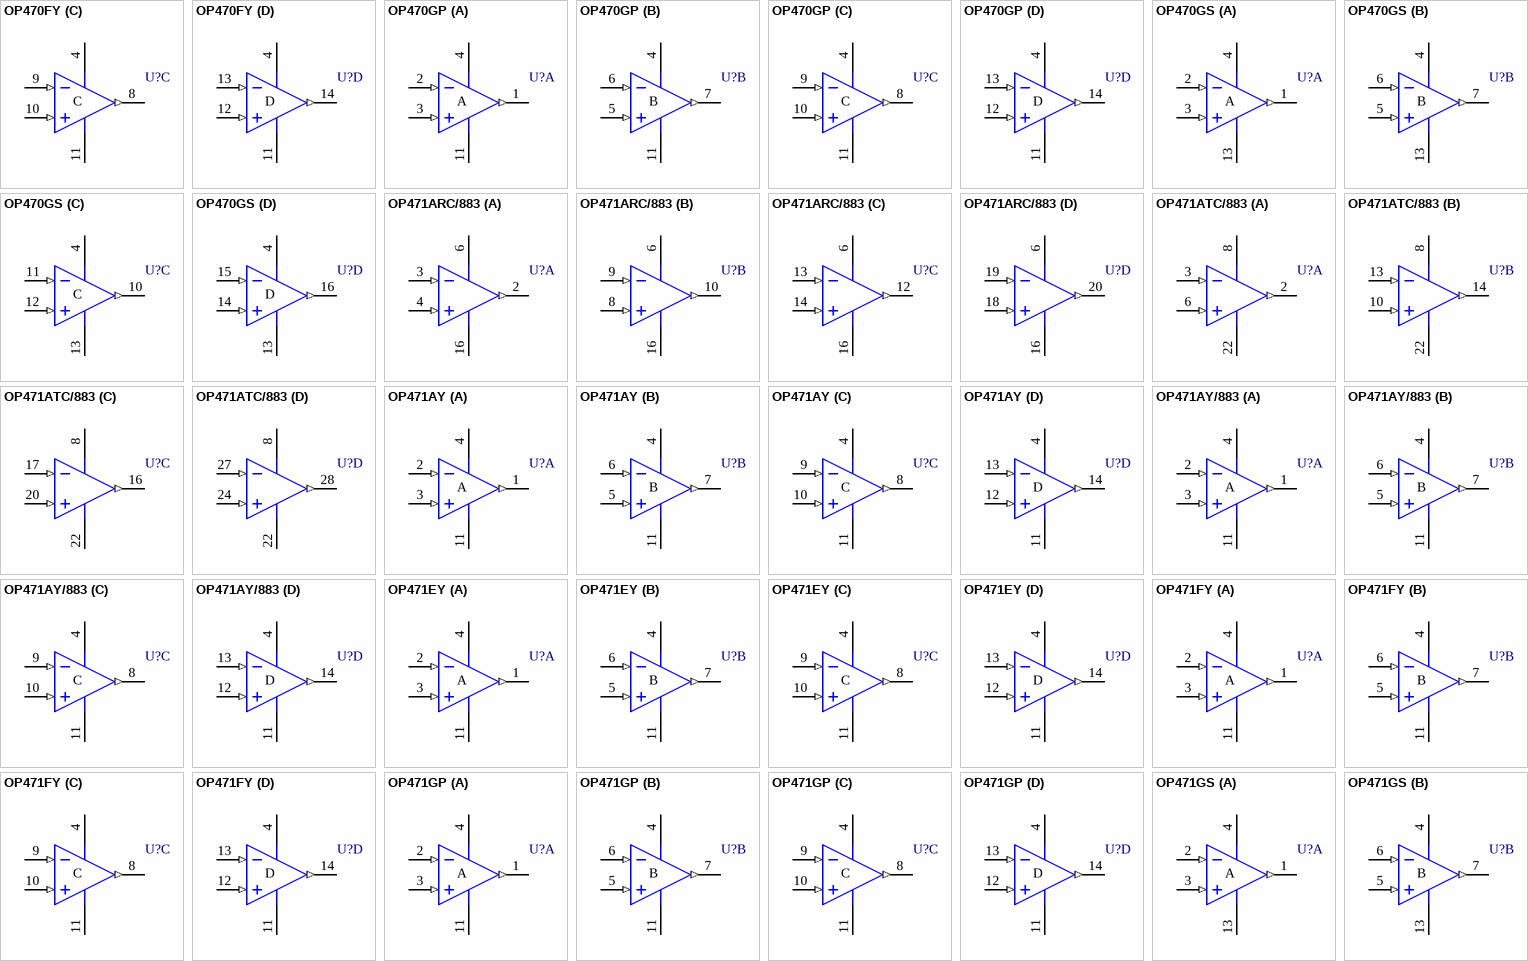
[diagram p40: symbols OP470FY to OP471GS]

## OP470FY
designator U?
Very Low-Noise Quad Operational Amplifier; Package Information: Latest Revision: revB; Published: 8-Jun-2000; Revision: 17-Jul-2002: Re-released for DXP Platform.; Datasheet: Designer's Reference Manual CD (1992); Package Reference: Q-14; Publisher: Altium Limited
footprint Q-14 (DIP; 14 Leads; Row Spacing 7.62 mm; Pitch 2.54 mm)
simulation model OP470 (SUBCKT)
pins on every part: 4 V+ (power), 11 V- (power)
part A pins: 1 OUT (out), 2 IN- (in), 3 IN+ (in)
part B pins: 5 IN+ (in), 6 IN- (in), 7 OUT (out)
part C pins: 8 OUT (out), 9 IN- (in), 10 IN+ (in)
part D pins: 12 IN+ (in), 13 IN- (in), 14 OUT (out)
part A text: A
part B text: B
part C text: C
part D text: D

## OP470GP
designator U?
Very Low-Noise Quad Operational Amplifier; Package Information: Latest Revision: 1999; Published: 8-Jun-2000; Revision: 17-Jul-2002: Re-released for DXP Platform.; Datasheet: Designer's Reference Manual CD (1992); Package Reference: N-14; Publisher: Altium Limited
footprint N-14 (DIP; 14 Leads; Row Spacing 7.62 mm; Pitch 2.54 mm)
simulation model OP470 (SUBCKT)
pins on every part: 4 V+ (power), 11 V- (power)
part A pins: 1 OUT (out), 2 IN- (in), 3 IN+ (in)
part B pins: 5 IN+ (in), 6 IN- (in), 7 OUT (out)
part C pins: 8 OUT (out), 9 IN- (in), 10 IN+ (in)
part D pins: 12 IN+ (in), 13 IN- (in), 14 OUT (out)
part A text: A
part B text: B
part C text: C
part D text: D

## OP470GS
designator U?
Very Low-Noise Quad Operational Amplifier; Revision 1: 17-Jul-2002: Re-released for DXP Platform.; Revision 2: 21-May-2003: Pin 10 electrical type changed to 'Output'.; Package Information: Latest Revision: revA 1996; Note: Pins 8 and 9 are not connected and not drawn.; Code - JEDEC: MS-013-AA; Code - IPC: SO16W; Published: 8-Jun-2000; Datasheet: Designer's Reference Manual CD (1992); Package Reference: SOL-16; Publisher: Altium Limited
footprint SOL-16 (Small Outline; 16 Leads; Body Width 7.5 mm; Pitch 1.27 mm)
simulation model OP470 (SUBCKT)
pins on every part: 4 V+ (power), 13 V- (power)
part A pins: 1 OUT (out), 2 IN- (in), 3 IN+ (in)
part B pins: 5 IN+ (in), 6 IN- (in), 7 OUT (out)
part C pins: 10 OUT (out), 11 IN- (in), 12 IN+ (in)
part D pins: 14 IN+ (in), 15 IN- (in), 16 OUT (out)
part A text: A
part B text: B
part C text: C
part D text: D

## OP471ARC/883
designator U?
High-Speed, Low-Noise Quad Operational Amplifier; Note: Pins 1, 5, 7, 11, 15 and 17 are not connected (NC) and are not drawn.; Published: 8-Jun-2000; Revision: 17-Jul-2002: Re-released for DXP Platform.; Datasheet: Designer's Reference Manual CD (1992); Package Reference: E-20A; Publisher: Altium Limited
footprint E-20A (Leadless Chip Carrier; 20 Terminals; Body 8.9 x 8.9 mm)
pins on every part: 6 V+ (power), 16 V- (power)
part A pins: 2 OUT (out), 3 IN- (in), 4 IN+ (in)
part B pins: 8 IN+ (in), 9 IN- (in), 10 OUT (out)
part C pins: 12 OUT (out), 13 IN- (in), 14 IN+ (in)
part D pins: 18 IN+ (in), 19 IN- (in), 20 OUT (out)

## OP471ATC/883
designator U?
High-Speed, Low-Noise Quad Operational Amplifier; Note: Pins 1, 4, 5, 7, 9, 11, 12, 15, 18, 19, 21, 23, 25 and 26 are not connected (NC) and are not drawn.; Published: 8-Jun-2000; Revision: 17-Jul-2002: Re-released for DXP Platform.; Datasheet: Designer's Reference Manual CD (1992); Package Reference: E-28A; Publisher: Altium Limited
footprint E-28A (Leadless Chip Carrier; 28 Terminals; Body 11.4 x 11.4 mm)
pins on every part: 8 V+ (power), 22 V- (power)
part A pins: 2 OUT (out), 3 IN- (in), 6 IN+ (in)
part B pins: 10 IN+ (in), 13 IN- (in), 14 OUT (out)
part C pins: 16 OUT (out), 17 IN- (in), 20 IN+ (in)
part D pins: 24 IN+ (in), 27 IN- (in), 28 OUT (out)

## OP471AY
designator U?
High-Speed, Low-Noise Quad Operational Amplifier; Package Information: Latest Revision: revB; Published: 8-Jun-2000; Revision: 17-Jul-2002: Re-released for DXP Platform.; Datasheet: Designer's Reference Manual CD (1992); Package Reference: Q-14; Publisher: Altium Limited
footprint Q-14 (DIP; 14 Leads; Row Spacing 7.62 mm; Pitch 2.54 mm)
pins on every part: 4 V+ (power), 11 V- (power)
part A pins: 1 OUT (out), 2 IN- (in), 3 IN+ (in)
part B pins: 5 IN+ (in), 6 IN- (in), 7 OUT (out)
part C pins: 8 OUT (out), 9 IN- (in), 10 IN+ (in)
part D pins: 12 IN+ (in), 13 IN- (in), 14 OUT (out)
part A text: A
part B text: B
part C text: C
part D text: D

## OP471AY/883
designator U?
High-Speed, Low-Noise Quad Operational Amplifier; Package Information: Latest Revision: revB; Published: 8-Jun-2000; Revision: 17-Jul-2002: Re-released for DXP Platform.; Datasheet: Designer's Reference Manual CD (1992); Package Reference: Q-14; Publisher: Altium Limited
footprint Q-14 (DIP; 14 Leads; Row Spacing 7.62 mm; Pitch 2.54 mm)
pins on every part: 4 V+ (power), 11 V- (power)
part A pins: 1 OUT (out), 2 IN- (in), 3 IN+ (in)
part B pins: 5 IN+ (in), 6 IN- (in), 7 OUT (out)
part C pins: 8 OUT (out), 9 IN- (in), 10 IN+ (in)
part D pins: 12 IN+ (in), 13 IN- (in), 14 OUT (out)
part A text: A
part B text: B
part C text: C
part D text: D

## OP471EY
designator U?
High-Speed, Low-Noise Quad Operational Amplifier; Package Information: Latest Revision: revB; Published: 8-Jun-2000; Revision: 17-Jul-2002: Re-released for DXP Platform.; Datasheet: Designer's Reference Manual CD (1992); Package Reference: Q-14; Publisher: Altium Limited
footprint Q-14 (DIP; 14 Leads; Row Spacing 7.62 mm; Pitch 2.54 mm)
pins on every part: 4 V+ (power), 11 V- (power)
part A pins: 1 OUT (out), 2 IN- (in), 3 IN+ (in)
part B pins: 5 IN+ (in), 6 IN- (in), 7 OUT (out)
part C pins: 8 OUT (out), 9 IN- (in), 10 IN+ (in)
part D pins: 12 IN+ (in), 13 IN- (in), 14 OUT (out)
part A text: A
part B text: B
part C text: C
part D text: D

## OP471FY
designator U?
High-Speed, Low-Noise Quad Operational Amplifier; Package Information: Latest Revision: revB; Published: 8-Jun-2000; Revision: 17-Jul-2002: Re-released for DXP Platform.; Datasheet: Designer's Reference Manual CD (1992); Package Reference: Q-14; Publisher: Altium Limited
footprint Q-14 (DIP; 14 Leads; Row Spacing 7.62 mm; Pitch 2.54 mm)
pins on every part: 4 V+ (power), 11 V- (power)
part A pins: 1 OUT (out), 2 IN- (in), 3 IN+ (in)
part B pins: 5 IN+ (in), 6 IN- (in), 7 OUT (out)
part C pins: 8 OUT (out), 9 IN- (in), 10 IN+ (in)
part D pins: 12 IN+ (in), 13 IN- (in), 14 OUT (out)
part A text: A
part B text: B
part C text: C
part D text: D

## OP471GP
designator U?
High-Speed, Low-Noise Quad Operational Amplifier; Package Information: Latest Revision: 1999; Published: 8-Jun-2000; Revision: 17-Jul-2002: Re-released for DXP Platform.; Datasheet: Designer's Reference Manual CD (1992); Package Reference: N-14; Publisher: Altium Limited
footprint N-14 (DIP; 14 Leads; Row Spacing 7.62 mm; Pitch 2.54 mm)
pins on every part: 4 V+ (power), 11 V- (power)
part A pins: 1 OUT (out), 2 IN- (in), 3 IN+ (in)
part B pins: 5 IN+ (in), 6 IN- (in), 7 OUT (out)
part C pins: 8 OUT (out), 9 IN- (in), 10 IN+ (in)
part D pins: 12 IN+ (in), 13 IN- (in), 14 OUT (out)
part A text: A
part B text: B
part C text: C
part D text: D

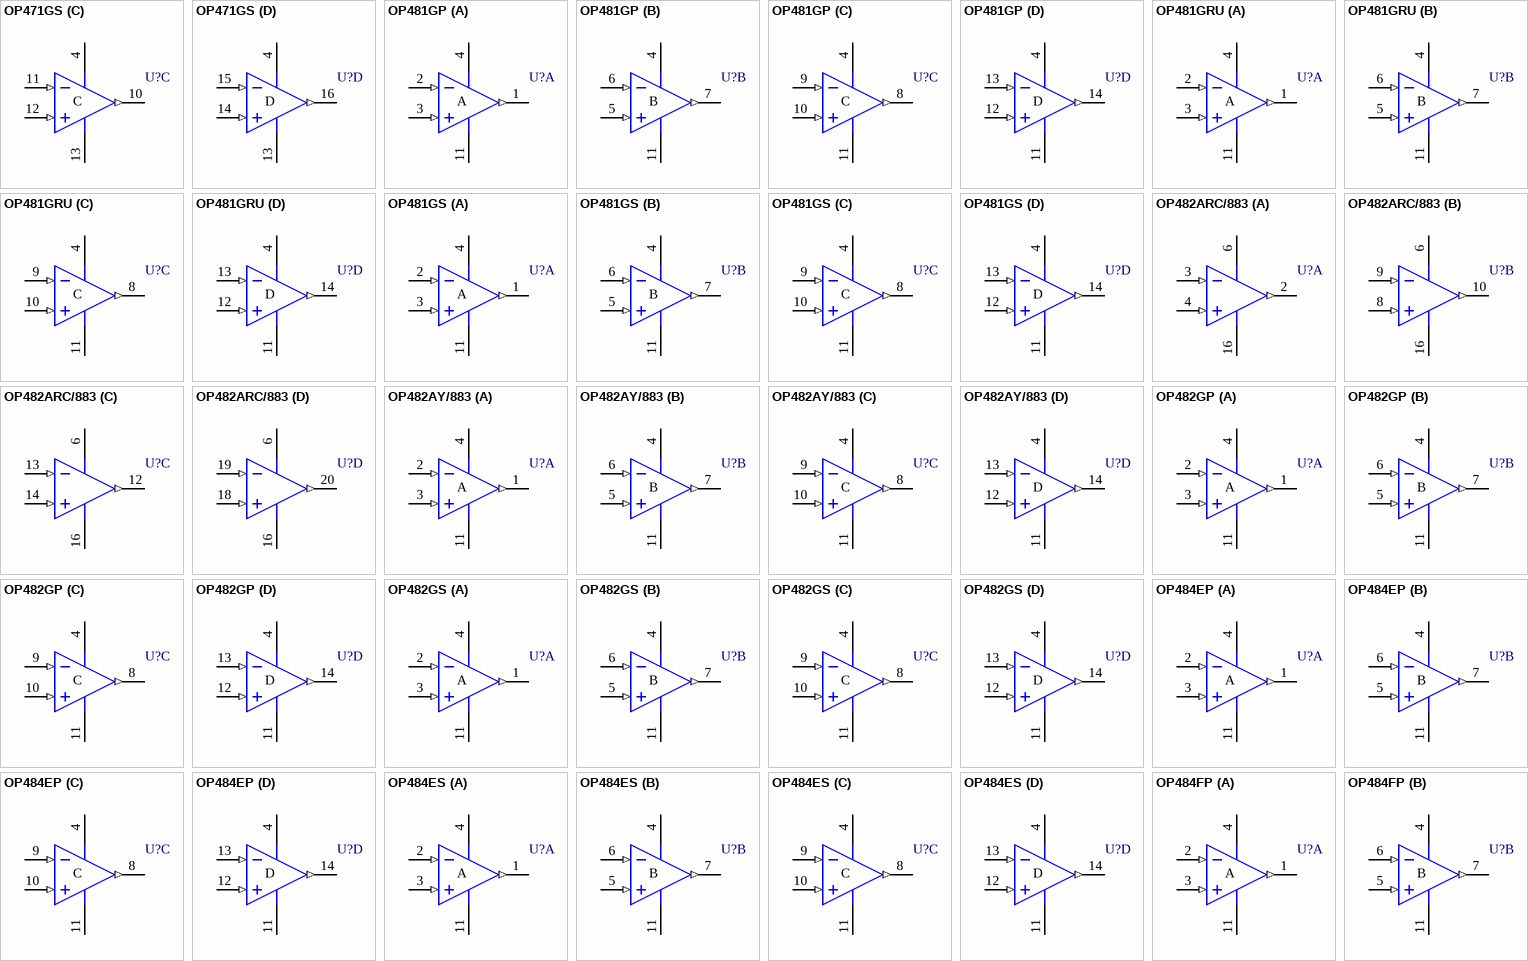
[diagram p41: symbols OP471GS to OP484FP]

## OP471GS
designator U?
High-Speed, Low-Noise Quad Operational Amplifier; Revision 1: 17-Jul-2002: Re-released for DXP Platform.; Revision 2: 21-May-2003: Pin 10 electrical type changed to 'Output'.; Package Information: Latest Revision: revA 1996; Note: Pins 8 and 9 are not connected; Code - JEDEC: MS-013-AA; Code - IPC: SO16W; Published: 8-Jun-2000; Datasheet: Designer's Reference Manual CD (1992); Package Reference: SOL-16; Publisher: Altium Limited
footprint SOL-16 (Small Outline; 16 Leads; Body Width 7.5 mm; Pitch 1.27 mm)
pins on every part: 4 V+ (power), 13 V- (power)
part A pins: 1 OUT (out), 2 IN- (in), 3 IN+ (in)
part B pins: 5 IN+ (in), 6 IN- (in), 7 OUT (out)
part C pins: 10 OUT (out), 11 IN- (in), 12 IN+ (in)
part D pins: 14 IN+ (in), 15 IN- (in), 16 OUT (out)
part A text: A
part B text: B
part C text: C
part D text: D

## OP481GP
designator U?
Ultra-Low Power, Rail-to-Rail Ouput Operational Amplifier; Package Information: Latest Revision: 1999; Published: 8-Jun-2000; Revision: 17-Jul-2002: Re-released for DXP Platform.; Datasheet: Designer's Reference Manual CD (REV. 0 1996); Package Reference: N-14; Publisher: Altium Limited
footprint N-14 (DIP; 14 Leads; Row Spacing 7.62 mm; Pitch 2.54 mm)
simulation model OP481 (SUBCKT)
pins on every part: 4 V+ (power), 11 V- (power)
part A pins: 1 OUT (out), 2 IN- (in), 3 IN+ (in)
part B pins: 5 IN+ (in), 6 IN- (in), 7 OUT (out)
part C pins: 8 OUT (out), 9 IN- (in), 10 IN+ (in)
part D pins: 12 IN+ (in), 13 IN- (in), 14 OUT (out)
part A text: A
part B text: B
part C text: C
part D text: D

## OP481GRU
designator U?
Ultra-Low Power, Rail-to-Rail Ouput Operational Amplifier; Published: 8-Jun-2000; Revision: 17-Jul-2002: Re-released for DXP Platform.; Datasheet: Designer's Reference Manual CD (REV. 0 1996); Package Reference: RU-14; Publisher: Altium Limited
footprint RU-14 (Shrink Small Outline; 14 Leads; Body Width 4.4 mm; Pitch 0.65 mm)
simulation model OP481 (SUBCKT)
pins on every part: 4 V+ (power), 11 V- (power)
part A pins: 1 OUT (out), 2 IN- (in), 3 IN+ (in)
part B pins: 5 IN+ (in), 6 IN- (in), 7 OUT (out)
part C pins: 8 OUT (out), 9 IN- (in), 10 IN+ (in)
part D pins: 12 IN+ (in), 13 IN- (in), 14 OUT (out)
part A text: A
part B text: B
part C text: C
part D text: D

## OP481GS
designator U?
Ultra-Low Power, Rail-to-Rail Ouput Operational Amplifier; Package Information: Latest Revision: revA; Code - JEDEC: MS-012-AB; Code - IPC: SO14; Published: 8-Jun-2000; Revision: 17-Jul-2002: Re-released for DXP Platform.; Datasheet: Designer's Reference Manual CD (REV. 0 1996); Package Reference: SO-14; Publisher: Altium Limited
footprint SO-14 (Small Outline; 14 Leads; Body Width 3.9 mm; Pitch 1.27 mm)
simulation model OP481 (SUBCKT)
pins on every part: 4 V+ (power), 11 V- (power)
part A pins: 1 OUT (out), 2 IN- (in), 3 IN+ (in)
part B pins: 5 IN+ (in), 6 IN- (in), 7 OUT (out)
part C pins: 8 OUT (out), 9 IN- (in), 10 IN+ (in)
part D pins: 12 IN+ (in), 13 IN- (in), 14 OUT (out)
part A text: A
part B text: B
part C text: C
part D text: D

## OP482ARC/883
designator U?
Quad Low-Power, High-Speed JFET Operational Amplifier; Note: Pins 1, 5, 7, 11, 15 and 17 are not connected (NC) and are not drawn.; Published: 8-Jun-2000; Revision: 17-Jul-2002: Re-released for DXP Platform.; Datasheet: Amplifier Reference Manual (1992); Package Reference: E-20A; Publisher: Altium Limited
footprint E-20A (Leadless Chip Carrier; 20 Terminals; Body 8.9 x 8.9 mm)
simulation model OP482 (SUBCKT)
pins on every part: 6 V+ (power), 16 V- (power)
part A pins: 2 OUT (out), 3 IN- (in), 4 IN+ (in)
part B pins: 8 IN+ (in), 9 IN- (in), 10 OUT (out)
part C pins: 12 OUT (out), 13 IN- (in), 14 IN+ (in)
part D pins: 18 IN+ (in), 19 IN- (in), 20 OUT (out)

## OP482AY/883
designator U?
Quad Low-Power, High-Speed JFET Operational Amplifier; Package Information: Latest Revision: revB; Published: 8-Jun-2000; Revision: 17-Jul-2002: Re-released for DXP Platform.; Datasheet: Amplifier Reference Manual (1992); Package Reference: Q-14; Publisher: Altium Limited
footprint Q-14 (DIP; 14 Leads; Row Spacing 7.62 mm; Pitch 2.54 mm)
simulation model OP482 (SUBCKT)
pins on every part: 4 V+ (power), 11 V- (power)
part A pins: 1 OUT (out), 2 IN- (in), 3 IN+ (in)
part B pins: 5 IN+ (in), 6 IN- (in), 7 OUT (out)
part C pins: 8 OUT (out), 9 IN- (in), 10 IN+ (in)
part D pins: 12 IN+ (in), 13 IN- (in), 14 OUT (out)
part A text: A
part B text: B
part C text: C
part D text: D

## OP482GP
designator U?
Quad Low-Power, High-Speed JFET Operational Amplifier; Package Information: Latest Revision: 1999; Published: 8-Jun-2000; Revision: 17-Jul-2002: Re-released for DXP Platform.; Datasheet: Designer's Reference Manual CD (REV. B); Package Reference: N-14; Publisher: Altium Limited
footprint N-14 (DIP; 14 Leads; Row Spacing 7.62 mm; Pitch 2.54 mm)
simulation model OP482G (SUBCKT)
pins on every part: 4 V+ (power), 11 V- (power)
part A pins: 1 OUT (out), 2 IN- (in), 3 IN+ (in)
part B pins: 5 IN+ (in), 6 IN- (in), 7 OUT (out)
part C pins: 8 OUT (out), 9 IN- (in), 10 IN+ (in)
part D pins: 12 IN+ (in), 13 IN- (in), 14 OUT (out)
part A text: A
part B text: B
part C text: C
part D text: D

## OP482GS
designator U?
Quad Low-Power, High-Speed JFET Operational Amplifier; Package Information: Latest Revision: revA; Code - JEDEC: MS-012-AB; Code - IPC: SO14; Published: 8-Jun-2000; Revision: 17-Jul-2002: Re-released for DXP Platform.; Datasheet: Designer's Reference Manual CD (REV. B); Package Reference: SO-14; Publisher: Altium Limited
footprint SO-14 (Small Outline; 14 Leads; Body Width 3.9 mm; Pitch 1.27 mm)
simulation model OP482G (SUBCKT)
pins on every part: 4 V+ (power), 11 V- (power)
part A pins: 1 OUT (out), 2 IN- (in), 3 IN+ (in)
part B pins: 5 IN+ (in), 6 IN- (in), 7 OUT (out)
part C pins: 8 OUT (out), 9 IN- (in), 10 IN+ (in)
part D pins: 12 IN+ (in), 13 IN- (in), 14 OUT (out)
part A text: A
part B text: B
part C text: C
part D text: D

## OP484EP
designator U?
Precision Rail-to-Rail Input and Output Operational Amplifier; Package Information: Latest Revision: 1999; Published: 8-Jun-2000; Revision: 17-Jul-2002: Re-released for DXP Platform.; Datasheet: Designer's Reference Manual CD (REV. 0 1996); Package Reference: N-14; Publisher: Altium Limited
footprint N-14 (DIP; 14 Leads; Row Spacing 7.62 mm; Pitch 2.54 mm)
simulation model OP484E (SUBCKT)
pins on every part: 4 V+ (power), 11 V- (power)
part A pins: 1 OUT (out), 2 IN- (in), 3 IN+ (in)
part B pins: 5 IN+ (in), 6 IN- (in), 7 OUT (out)
part C pins: 8 OUT (out), 9 IN- (in), 10 IN+ (in)
part D pins: 12 IN+ (in), 13 IN- (in), 14 OUT (out)
part A text: A
part B text: B
part C text: C
part D text: D

## OP484ES
designator U?
Precision Rail-to-Rail Input and Output Operational Amplifier; Package Information: Latest Revision: revA; Code - JEDEC: MS-012-AB; Code - IPC: SO14; Published: 8-Jun-2000; Revision: 17-Jul-2002: Re-released for DXP Platform.; Datasheet: Designer's Reference Manual CD (REV. 0 1996); Package Reference: SO-14; Publisher: Altium Limited
footprint SO-14 (Small Outline; 14 Leads; Body Width 3.9 mm; Pitch 1.27 mm)
simulation model OP484E (SUBCKT)
pins on every part: 4 V+ (power), 11 V- (power)
part A pins: 1 OUT (out), 2 IN- (in), 3 IN+ (in)
part B pins: 5 IN+ (in), 6 IN- (in), 7 OUT (out)
part C pins: 8 OUT (out), 9 IN- (in), 10 IN+ (in)
part D pins: 12 IN+ (in), 13 IN- (in), 14 OUT (out)
part A text: A
part B text: B
part C text: C
part D text: D

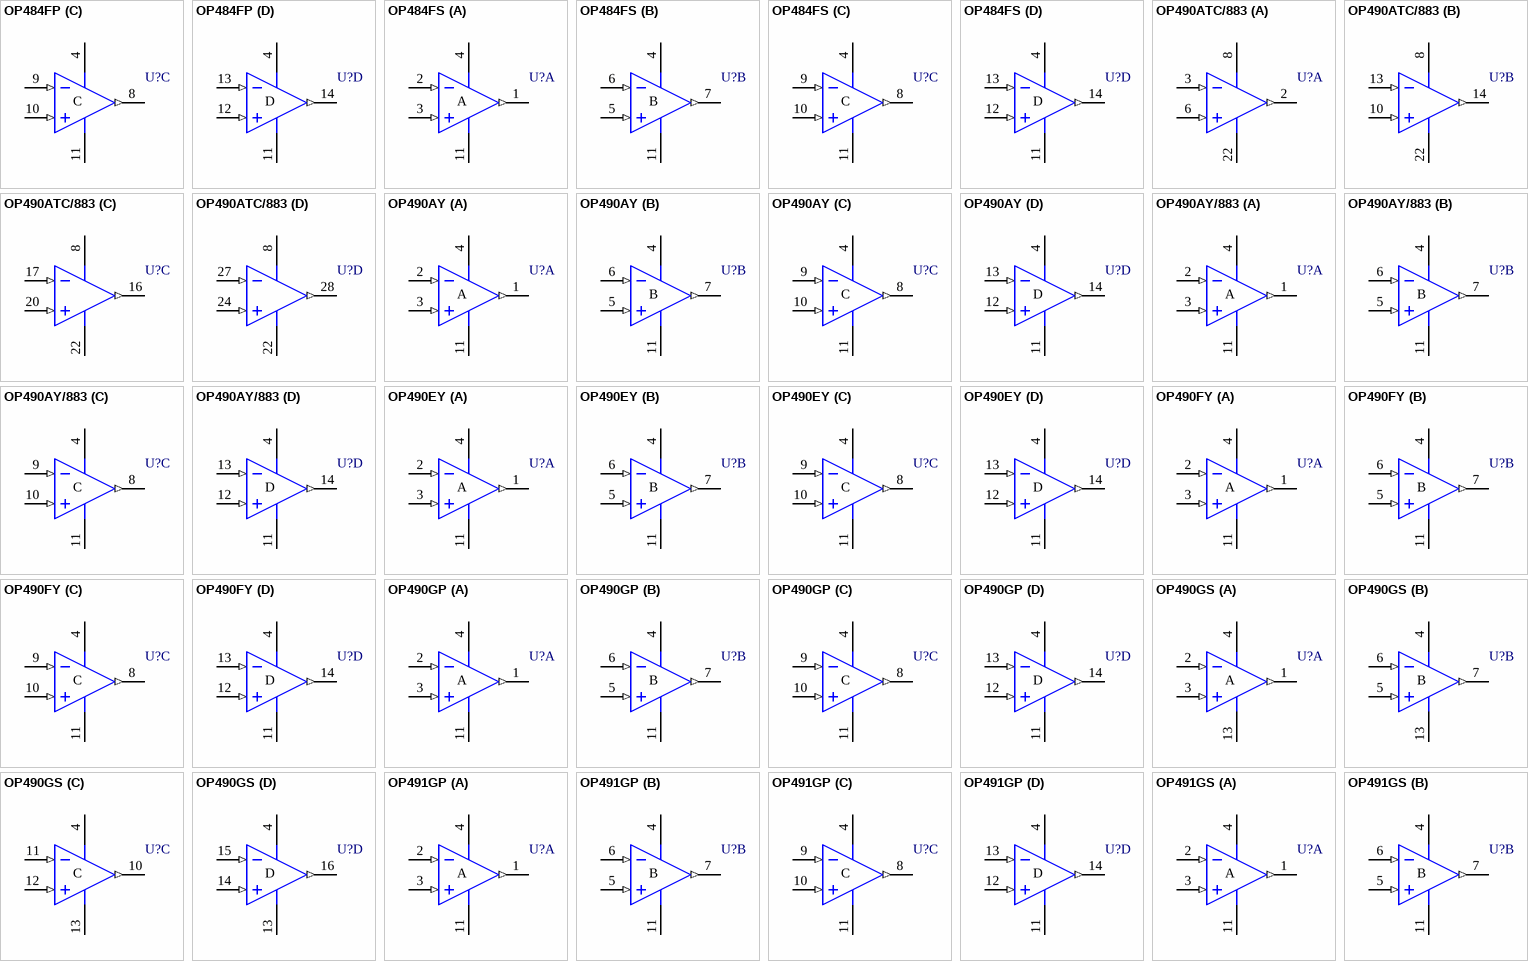
[diagram p42: symbols OP484FP to OP491GS]

## OP484FP
designator U?
Precision Rail-to-Rail Input and Output Operational Amplifier; Package Information: Latest Revision: 1999; Published: 8-Jun-2000; Revision: 17-Jul-2002: Re-released for DXP Platform.; Datasheet: Designer's Reference Manual CD (REV. 0 1996); Package Reference: N-14; Publisher: Altium Limited
footprint N-14 (DIP; 14 Leads; Row Spacing 7.62 mm; Pitch 2.54 mm)
simulation model OP484F (SUBCKT)
pins on every part: 4 V+ (power), 11 V- (power)
part A pins: 1 OUT (out), 2 IN- (in), 3 IN+ (in)
part B pins: 5 IN+ (in), 6 IN- (in), 7 OUT (out)
part C pins: 8 OUT (out), 9 IN- (in), 10 IN+ (in)
part D pins: 12 IN+ (in), 13 IN- (in), 14 OUT (out)
part A text: A
part B text: B
part C text: C
part D text: D

## OP484FS
designator U?
Precision Rail-to-Rail Input and Output Operational Amplifier; Package Information: Latest Revision: revA; Code - JEDEC: MS-012-AB; Code - IPC: SO14; Published: 8-Jun-2000; Revision: 17-Jul-2002: Re-released for DXP Platform.; Datasheet: Designer's Reference Manual CD (REV. 0 1996); Package Reference: SO-14; Publisher: Altium Limited
footprint SO-14 (Small Outline; 14 Leads; Body Width 3.9 mm; Pitch 1.27 mm)
simulation model OP484F (SUBCKT)
pins on every part: 4 V+ (power), 11 V- (power)
part A pins: 1 OUT (out), 2 IN- (in), 3 IN+ (in)
part B pins: 5 IN+ (in), 6 IN- (in), 7 OUT (out)
part C pins: 8 OUT (out), 9 IN- (in), 10 IN+ (in)
part D pins: 12 IN+ (in), 13 IN- (in), 14 OUT (out)
part A text: A
part B text: B
part C text: C
part D text: D

## OP490ATC/883
designator U?
Low-Voltage Micropower Quad Operational Amplifier; Note: Pins 1, 4, 5, 7, 9, 11, 12, 15, 18, 19, 21, 23, 25 and 26 are not connected (NC) and are not drawn.; Published: 8-Jun-2000; Revision: 17-Jul-2002: Re-released for DXP Platform.; Datasheet: Designer's Reference Manual CD (REV. B ); Package Reference: E-28A; Publisher: Altium Limited
footprint E-28A (Leadless Chip Carrier; 28 Terminals; Body 11.4 x 11.4 mm)
pins on every part: 8 V+ (power), 22 V- (power)
part A pins: 2 OUT (out), 3 IN- (in), 6 IN+ (in)
part B pins: 10 IN+ (in), 13 IN- (in), 14 OUT (out)
part C pins: 16 OUT (out), 17 IN- (in), 20 IN+ (in)
part D pins: 24 IN+ (in), 27 IN- (in), 28 OUT (out)

## OP490AY
designator U?
Low-Voltage Micropower Quad Operational Amplifier; Package Information: Latest Revision: revB; Published: 8-Jun-2000; Revision: 17-Jul-2002: Re-released for DXP Platform.; Datasheet: Designer's Reference Manual CD (REV. B ); Package Reference: Q-14; Publisher: Altium Limited
footprint Q-14 (DIP; 14 Leads; Row Spacing 7.62 mm; Pitch 2.54 mm)
pins on every part: 4 V+ (power), 11 V- (power)
part A pins: 1 OUT (out), 2 IN- (in), 3 IN+ (in)
part B pins: 5 IN+ (in), 6 IN- (in), 7 OUT (out)
part C pins: 8 OUT (out), 9 IN- (in), 10 IN+ (in)
part D pins: 12 IN+ (in), 13 IN- (in), 14 OUT (out)
part A text: A
part B text: B
part C text: C
part D text: D

## OP490AY/883
designator U?
Low-Voltage Micropower Quad Operational Amplifier; Package Information: Latest Revision: revB; Published: 8-Jun-2000; Revision: 17-Jul-2002: Re-released for DXP Platform.; Datasheet: Designer's Reference Manual CD (REV. B ); Package Reference: Q-14; Publisher: Altium Limited
footprint Q-14 (DIP; 14 Leads; Row Spacing 7.62 mm; Pitch 2.54 mm)
pins on every part: 4 V+ (power), 11 V- (power)
part A pins: 1 OUT (out), 2 IN- (in), 3 IN+ (in)
part B pins: 5 IN+ (in), 6 IN- (in), 7 OUT (out)
part C pins: 8 OUT (out), 9 IN- (in), 10 IN+ (in)
part D pins: 12 IN+ (in), 13 IN- (in), 14 OUT (out)
part A text: A
part B text: B
part C text: C
part D text: D

## OP490EY
designator U?
Low-Voltage Micropower Quad Operational Amplifier; Package Information: Latest Revision: revB; Published: 8-Jun-2000; Revision: 17-Jul-2002: Re-released for DXP Platform.; Datasheet: Designer's Reference Manual CD (REV. B ); Package Reference: Q-14; Publisher: Altium Limited
footprint Q-14 (DIP; 14 Leads; Row Spacing 7.62 mm; Pitch 2.54 mm)
pins on every part: 4 V+ (power), 11 V- (power)
part A pins: 1 OUT (out), 2 IN- (in), 3 IN+ (in)
part B pins: 5 IN+ (in), 6 IN- (in), 7 OUT (out)
part C pins: 8 OUT (out), 9 IN- (in), 10 IN+ (in)
part D pins: 12 IN+ (in), 13 IN- (in), 14 OUT (out)
part A text: A
part B text: B
part C text: C
part D text: D

## OP490FY
designator U?
Low-Voltage Micropower Quad Operational Amplifier; Package Information: Latest Revision: revB; Published: 8-Jun-2000; Revision: 17-Jul-2002: Re-released for DXP Platform.; Datasheet: Designer's Reference Manual CD (REV. B ); Package Reference: Q-14; Publisher: Altium Limited
footprint Q-14 (DIP; 14 Leads; Row Spacing 7.62 mm; Pitch 2.54 mm)
pins on every part: 4 V+ (power), 11 V- (power)
part A pins: 1 OUT (out), 2 IN- (in), 3 IN+ (in)
part B pins: 5 IN+ (in), 6 IN- (in), 7 OUT (out)
part C pins: 8 OUT (out), 9 IN- (in), 10 IN+ (in)
part D pins: 12 IN+ (in), 13 IN- (in), 14 OUT (out)
part A text: A
part B text: B
part C text: C
part D text: D

## OP490GP
designator U?
Low-Voltage Micropower Quad Operational Amplifier; Package Information: Latest Revision: 1999; Published: 8-Jun-2000; Revision: 17-Jul-2002: Re-released for DXP Platform.; Datasheet: Designer's Reference Manual CD (REV. B ); Package Reference: N-14; Publisher: Altium Limited
footprint N-14 (DIP; 14 Leads; Row Spacing 7.62 mm; Pitch 2.54 mm)
pins on every part: 4 V+ (power), 11 V- (power)
part A pins: 1 OUT (out), 2 IN- (in), 3 IN+ (in)
part B pins: 5 IN+ (in), 6 IN- (in), 7 OUT (out)
part C pins: 8 OUT (out), 9 IN- (in), 10 IN+ (in)
part D pins: 12 IN+ (in), 13 IN- (in), 14 OUT (out)
part A text: A
part B text: B
part C text: C
part D text: D

## OP490GS
designator U?
Low-Voltage Micropower Quad Operational Amplifier; Revision 1: 17-Jul-2002: Re-released for DXP Platform.; Revision 2: 21-May-2003: Pin 10 electrical type changed to 'Output'.; Package Information: Latest Revision: revA 1996; Note: Pins 8 and 9 are not connected and not drawn.; Code - JEDEC: MS-013-AA; Code - IPC: SO16W; Published: 8-Jun-2000; Datasheet: Designer's Reference Manual CD (REV. B ); Package Reference: SOL-16; Publisher: Altium Limited
footprint SOL-16 (Small Outline; 16 Leads; Body Width 7.5 mm; Pitch 1.27 mm)
pins on every part: 4 V+ (power), 13 V- (power)
part A pins: 1 OUT (out), 2 IN- (in), 3 IN+ (in)
part B pins: 5 IN+ (in), 6 IN- (in), 7 OUT (out)
part C pins: 10 OUT (out), 11 IN- (in), 12 IN+ (in)
part D pins: 14 IN+ (in), 15 IN- (in), 16 OUT (out)
part A text: A
part B text: B
part C text: C
part D text: D

## OP491GP
designator U?
Micropower Single-Supply Rail-to-Rail Input/Output Operational Amplifier; Package Information: Latest Revision: 1999; Published: 8-Jun-2000; Revision: 17-Jul-2002: Re-released for DXP Platform.; Datasheet: Designer's Reference Manual CD (REV. 0); Package Reference: N-14; Publisher: Altium Limited
footprint N-14 (DIP; 14 Leads; Row Spacing 7.62 mm; Pitch 2.54 mm)
simulation model OP491G (SUBCKT)
pins on every part: 4 V+ (power), 11 V- (power)
part A pins: 1 OUT (out), 2 IN- (in), 3 IN+ (in)
part B pins: 5 IN+ (in), 6 IN- (in), 7 OUT (out)
part C pins: 8 OUT (out), 9 IN- (in), 10 IN+ (in)
part D pins: 12 IN+ (in), 13 IN- (in), 14 OUT (out)
part A text: A
part B text: B
part C text: C
part D text: D

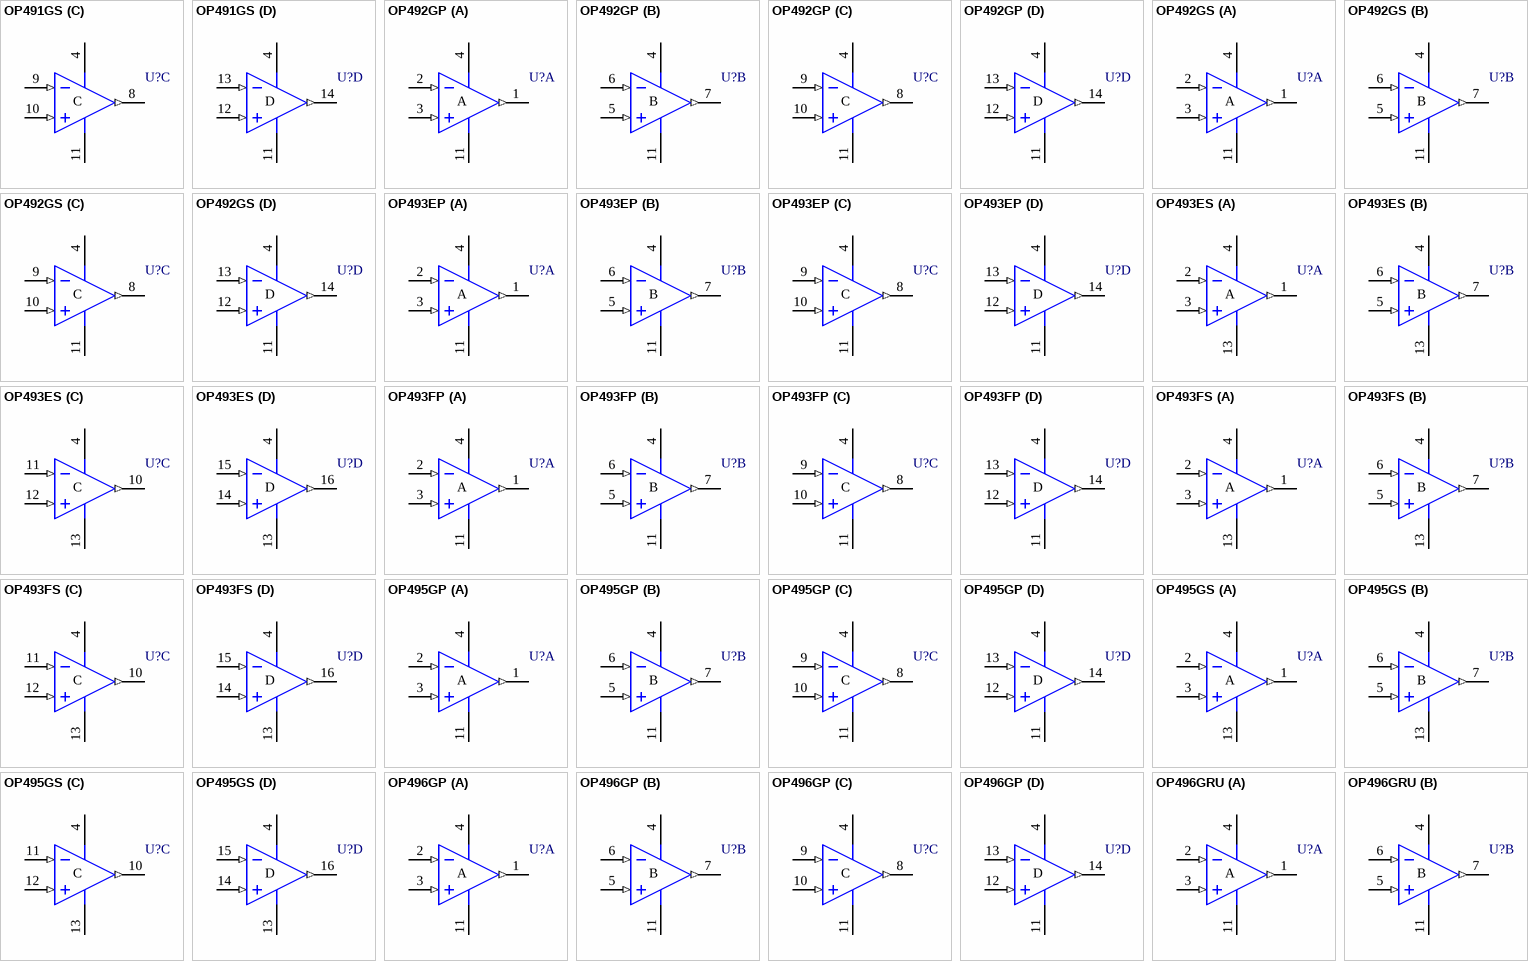
[diagram p43: symbols OP491GS to OP496GRU]